# Altium schematic symbol library MCU_Microchip_ATmega.SchLib: 440 symbols (part 1 of 9)
Pins are listed as number, name and electrical type; pins without a type are passive.

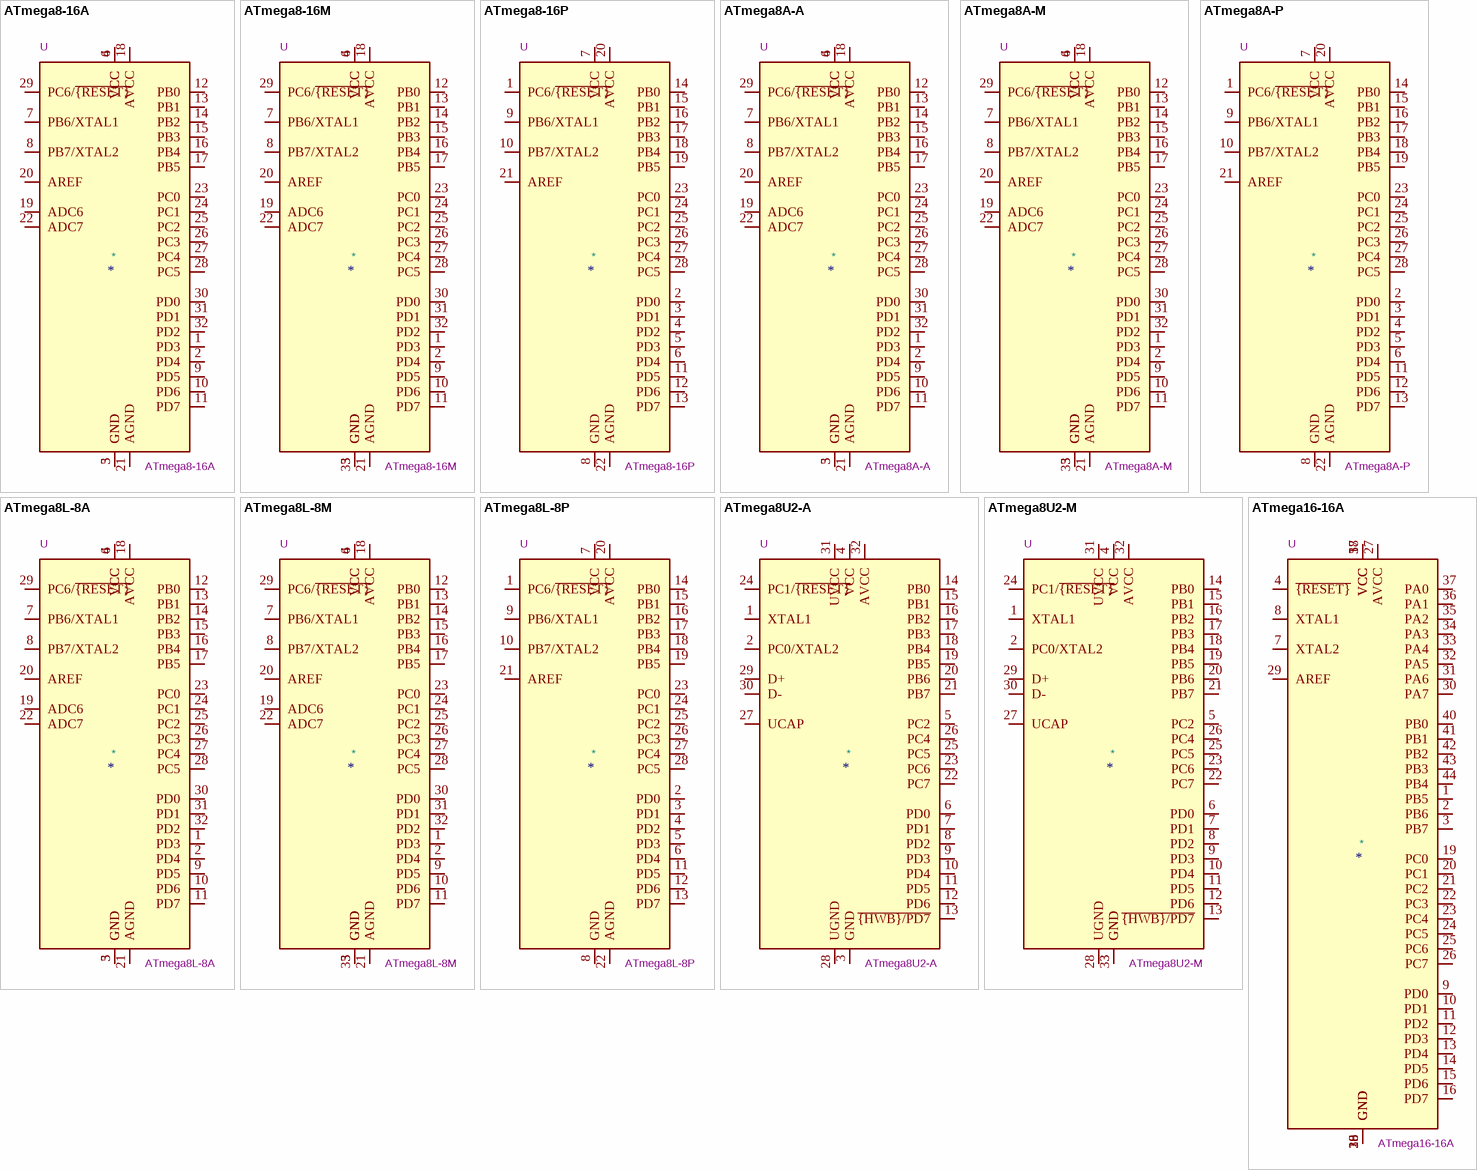
[diagram p0: symbols ATmega8-16A to ATmega16-16A]

## ATmega8-16A
designator *  value ATmega8-16A  Reference: U
16MHz, 8kB Flash, 1kB SRAM, 512B EEPROM, TQFP-32; ki_keywords: AVR 8bit Microcontroller MegaAVR; ki_fp_filters: TQFP*7x7mm*P0.8mm*; Footprint: Package_QFP:TQFP-32_7x7mm_P0.8mm; Datasheet: http://ww1.microchip.com/downloads/en/DeviceDoc/atmel-2486-8-bit-avr-microcontroller-atmega8_l_datasheet.pdf; Description_: 16MHz, 8kB Flash, 1kB SRAM, 512B EEPROM, TQFP-32
pins: 1 PD3, 2 PD4, 3 GND, 4 VCC, 5 GND, 6 VCC, 7 PB6/XTAL1, 8 PB7/XTAL2, 9 PD5, 10 PD6, 11 PD7, 12 PB0, 13 PB1, 14 PB2, 15 PB3, 16 PB4, 17 PB5, 18 AVCC, 19 ADC6, 20 AREF, 21 AGND, 22 ADC7, 23 PC0, 24 PC1, 25 PC2, 26 PC3, 27 PC4, 28 PC5, 29 PC6/~{{RESET}}, 30 PD0, 31 PD1, 32 PD2

## ATmega8-16M
designator *  value ATmega8-16M  Reference: U
16MHz, 8kB Flash, 1kB SRAM, 512B EEPROM, QFN-32; ki_keywords: AVR 8bit Microcontroller MegaAVR; ki_fp_filters: QFN*1EP*5x5mm*P0.5mm*; Footprint: Package_DFN_QFN:QFN-32-1EP_5x5mm_P0.5mm_EP3.1x3.1mm; Datasheet: http://ww1.microchip.com/downloads/en/DeviceDoc/atmel-2486-8-bit-avr-microcontroller-atmega8_l_datasheet.pdf; Description_: 16MHz, 8kB Flash, 1kB SRAM, 512B EEPROM, QFN-32
pins: 1 PD3, 2 PD4, 3 GND, 4 VCC, 5 GND, 6 VCC, 7 PB6/XTAL1, 8 PB7/XTAL2, 9 PD5, 10 PD6, 11 PD7, 12 PB0, 13 PB1, 14 PB2, 15 PB3, 16 PB4, 17 PB5, 18 AVCC, 19 ADC6, 20 AREF, 21 AGND, 22 ADC7, 23 PC0, 24 PC1, 25 PC2, 26 PC3, 27 PC4, 28 PC5, 29 PC6/~{{RESET}}, 30 PD0, 31 PD1, 32 PD2, 33 GND

## ATmega8-16P
designator *  value ATmega8-16P  Reference: U
16MHz, 8kB Flash, 1kB SRAM, 512B EEPROM, DIP-28; ki_keywords: AVR 8bit Microcontroller MegaAVR; ki_fp_filters: DIP*W7.62mm*; Footprint: Package_DIP:DIP-28_W7.62mm; Datasheet: http://ww1.microchip.com/downloads/en/DeviceDoc/atmel-2486-8-bit-avr-microcontroller-atmega8_l_datasheet.pdf; Description_: 16MHz, 8kB Flash, 1kB SRAM, 512B EEPROM, DIP-28
pins: 1 PC6/~{{RESET}}, 2 PD0, 3 PD1, 4 PD2, 5 PD3, 6 PD4, 7 VCC, 8 GND, 9 PB6/XTAL1, 10 PB7/XTAL2, 11 PD5, 12 PD6, 13 PD7, 14 PB0, 15 PB1, 16 PB2, 17 PB3, 18 PB4, 19 PB5, 20 AVCC, 21 AREF, 22 AGND, 23 PC0, 24 PC1, 25 PC2, 26 PC3, 27 PC4, 28 PC5

## ATmega8A-A
designator *  value ATmega8A-A  Reference: U
16MHz, 8kB Flash, 1kB SRAM, 512B EEPROM, TQFP-32; ki_keywords: AVR 8bit Microcontroller MegaAVR; ki_fp_filters: TQFP*7x7mm*P0.8mm*; Footprint: Package_QFP:TQFP-32_7x7mm_P0.8mm; Datasheet: http://ww1.microchip.com/downloads/en/DeviceDoc/Microchip%208bit%20mcu%20AVR%20ATmega8A%20data%20sheet%2040001974A.pdf; Description_: 16MHz, 8kB Flash, 1kB SRAM, 512B EEPROM, TQFP-32
pins: 1 PD3, 2 PD4, 3 GND, 4 VCC, 5 GND, 6 VCC, 7 PB6/XTAL1, 8 PB7/XTAL2, 9 PD5, 10 PD6, 11 PD7, 12 PB0, 13 PB1, 14 PB2, 15 PB3, 16 PB4, 17 PB5, 18 AVCC, 19 ADC6, 20 AREF, 21 AGND, 22 ADC7, 23 PC0, 24 PC1, 25 PC2, 26 PC3, 27 PC4, 28 PC5, 29 PC6/~{{RESET}}, 30 PD0, 31 PD1, 32 PD2

## ATmega8A-M
designator *  value ATmega8A-M  Reference: U
16MHz, 8kB Flash, 1kB SRAM, 512B EEPROM, QFN-32; ki_keywords: AVR 8bit Microcontroller MegaAVR; ki_fp_filters: QFN*1EP*5x5mm*P0.5mm*; Footprint: Package_DFN_QFN:QFN-32-1EP_5x5mm_P0.5mm_EP3.1x3.1mm; Datasheet: http://ww1.microchip.com/downloads/en/DeviceDoc/Microchip%208bit%20mcu%20AVR%20ATmega8A%20data%20sheet%2040001974A.pdf; Description_: 16MHz, 8kB Flash, 1kB SRAM, 512B EEPROM, QFN-32
pins: 1 PD3, 2 PD4, 3 GND, 4 VCC, 5 GND, 6 VCC, 7 PB6/XTAL1, 8 PB7/XTAL2, 9 PD5, 10 PD6, 11 PD7, 12 PB0, 13 PB1, 14 PB2, 15 PB3, 16 PB4, 17 PB5, 18 AVCC, 19 ADC6, 20 AREF, 21 AGND, 22 ADC7, 23 PC0, 24 PC1, 25 PC2, 26 PC3, 27 PC4, 28 PC5, 29 PC6/~{{RESET}}, 30 PD0, 31 PD1, 32 PD2, 33 GND

## ATmega8A-P
designator *  value ATmega8A-P  Reference: U
16MHz, 8kB Flash, 1kB SRAM, 512B EEPROM, DIP-28; ki_keywords: AVR 8bit Microcontroller MegaAVR; ki_fp_filters: DIP*W7.62mm*; Footprint: Package_DIP:DIP-28_W7.62mm; Datasheet: http://ww1.microchip.com/downloads/en/DeviceDoc/Microchip%208bit%20mcu%20AVR%20ATmega8A%20data%20sheet%2040001974A.pdf; Description_: 16MHz, 8kB Flash, 1kB SRAM, 512B EEPROM, DIP-28
pins: 1 PC6/~{{RESET}}, 2 PD0, 3 PD1, 4 PD2, 5 PD3, 6 PD4, 7 VCC, 8 GND, 9 PB6/XTAL1, 10 PB7/XTAL2, 11 PD5, 12 PD6, 13 PD7, 14 PB0, 15 PB1, 16 PB2, 17 PB3, 18 PB4, 19 PB5, 20 AVCC, 21 AREF, 22 AGND, 23 PC0, 24 PC1, 25 PC2, 26 PC3, 27 PC4, 28 PC5

## ATmega8L-8A
designator *  value ATmega8L-8A  Reference: U
8MHz, 8kB Flash, 1kB SRAM, 512B EEPROM, TQFP-32; ki_keywords: AVR 8bit Microcontroller MegaAVR; ki_fp_filters: TQFP*7x7mm*P0.8mm*; Footprint: Package_QFP:TQFP-32_7x7mm_P0.8mm; Datasheet: http://ww1.microchip.com/downloads/en/DeviceDoc/atmel-2486-8-bit-avr-microcontroller-atmega8_l_datasheet.pdf; Description_: 8MHz, 8kB Flash, 1kB SRAM, 512B EEPROM, TQFP-32
pins: 1 PD3, 2 PD4, 3 GND, 4 VCC, 5 GND, 6 VCC, 7 PB6/XTAL1, 8 PB7/XTAL2, 9 PD5, 10 PD6, 11 PD7, 12 PB0, 13 PB1, 14 PB2, 15 PB3, 16 PB4, 17 PB5, 18 AVCC, 19 ADC6, 20 AREF, 21 AGND, 22 ADC7, 23 PC0, 24 PC1, 25 PC2, 26 PC3, 27 PC4, 28 PC5, 29 PC6/~{{RESET}}, 30 PD0, 31 PD1, 32 PD2

## ATmega8L-8M
designator *  value ATmega8L-8M  Reference: U
8MHz, 8kB Flash, 1kB SRAM, 512B EEPROM, QFN-32; ki_keywords: AVR 8bit Microcontroller MegaAVR; ki_fp_filters: QFN*1EP*5x5mm*P0.5mm*; Footprint: Package_DFN_QFN:QFN-32-1EP_5x5mm_P0.5mm_EP3.1x3.1mm; Datasheet: http://ww1.microchip.com/downloads/en/DeviceDoc/atmel-2486-8-bit-avr-microcontroller-atmega8_l_datasheet.pdf; Description_: 8MHz, 8kB Flash, 1kB SRAM, 512B EEPROM, QFN-32
pins: 1 PD3, 2 PD4, 3 GND, 4 VCC, 5 GND, 6 VCC, 7 PB6/XTAL1, 8 PB7/XTAL2, 9 PD5, 10 PD6, 11 PD7, 12 PB0, 13 PB1, 14 PB2, 15 PB3, 16 PB4, 17 PB5, 18 AVCC, 19 ADC6, 20 AREF, 21 AGND, 22 ADC7, 23 PC0, 24 PC1, 25 PC2, 26 PC3, 27 PC4, 28 PC5, 29 PC6/~{{RESET}}, 30 PD0, 31 PD1, 32 PD2, 33 GND

## ATmega8L-8P
designator *  value ATmega8L-8P  Reference: U
8MHz, 8kB Flash, 1kB SRAM, 512B EEPROM, DIP-28; ki_keywords: AVR 8bit Microcontroller MegaAVR; ki_fp_filters: DIP*W7.62mm*; Footprint: Package_DIP:DIP-28_W7.62mm; Datasheet: http://ww1.microchip.com/downloads/en/DeviceDoc/atmel-2486-8-bit-avr-microcontroller-atmega8_l_datasheet.pdf; Description_: 8MHz, 8kB Flash, 1kB SRAM, 512B EEPROM, DIP-28
pins: 1 PC6/~{{RESET}}, 2 PD0, 3 PD1, 4 PD2, 5 PD3, 6 PD4, 7 VCC, 8 GND, 9 PB6/XTAL1, 10 PB7/XTAL2, 11 PD5, 12 PD6, 13 PD7, 14 PB0, 15 PB1, 16 PB2, 17 PB3, 18 PB4, 19 PB5, 20 AVCC, 21 AREF, 22 AGND, 23 PC0, 24 PC1, 25 PC2, 26 PC3, 27 PC4, 28 PC5

## ATmega8U2-A
designator *  value ATmega8U2-A  Reference: U
16MHz, 8kB Flash, 512B SRAM, 512B EEPROM, TQFP-32; ki_keywords: AVR 8bit Microcontroller MegaAVR; ki_fp_filters: TQFP*7x7mm*P0.8mm*; Footprint: Package_QFP:TQFP-32_7x7mm_P0.8mm; Datasheet: http://ww1.microchip.com/downloads/en/DeviceDoc/doc7799.pdf; Description_: 16MHz, 8kB Flash, 512B SRAM, 512B EEPROM, TQFP-32
pins: 1 XTAL1, 2 PC0/XTAL2, 3 GND, 4 VCC, 5 PC2, 6 PD0, 7 PD1, 8 PD2, 9 PD3, 10 PD4, 11 PD5, 12 PD6, 13 ~{{HWB}/PD7}, 14 PB0, 15 PB1, 16 PB2, 17 PB3, 18 PB4, 19 PB5, 20 PB6, 21 PB7, 22 PC7, 23 PC6, 24 PC1/~{{RESET}}, 25 PC5, 26 PC4, 27 UCAP, 28 UGND, 29 D+, 30 D-, 31 UVCC, 32 AVCC

## ATmega8U2-M
designator *  value ATmega8U2-M  Reference: U
16MHz, 8kB Flash, 512B SRAM, 512B EEPROM, QFN-32; ki_keywords: AVR 8bit Microcontroller MegaAVR; ki_fp_filters: QFN*1EP*5x5mm*P0.5mm*; Footprint: Package_DFN_QFN:QFN-32-1EP_5x5mm_P0.5mm_EP3.1x3.1mm; Datasheet: http://ww1.microchip.com/downloads/en/DeviceDoc/doc7799.pdf; Description_: 16MHz, 8kB Flash, 512B SRAM, 512B EEPROM, QFN-32
pins: 1 XTAL1, 2 PC0/XTAL2, 3 GND, 4 VCC, 5 PC2, 6 PD0, 7 PD1, 8 PD2, 9 PD3, 10 PD4, 11 PD5, 12 PD6, 13 ~{{HWB}/PD7}, 14 PB0, 15 PB1, 16 PB2, 17 PB3, 18 PB4, 19 PB5, 20 PB6, 21 PB7, 22 PC7, 23 PC6, 24 PC1/~{{RESET}}, 25 PC5, 26 PC4, 27 UCAP, 28 UGND, 29 D+, 30 D-, 31 UVCC, 32 AVCC, 33 GND

## ATmega16-16A
designator *  value ATmega16-16A  Reference: U
16MHz, 16kB Flash, 1kB SRAM, 512B EEPROM, JTAG, TQFP-44; ki_keywords: AVR 8bit Microcontroller MegaAVR; ki_fp_filters: TQFP*10x10mm*P0.8mm*; Footprint: Package_QFP:TQFP-44_10x10mm_P0.8mm; Datasheet: http://ww1.microchip.com/downloads/en/DeviceDoc/doc2466.pdf; Description_: 16MHz, 16kB Flash, 1kB SRAM, 512B EEPROM, JTAG, TQFP-44
pins: 1 PB5, 2 PB6, 3 PB7, 4 ~{{RESET}}, 5 VCC, 6 GND, 7 XTAL2, 8 XTAL1, 9 PD0, 10 PD1, 11 PD2, 12 PD3, 13 PD4, 14 PD5, 15 PD6, 16 PD7, 17 VCC, 18 GND, 19 PC0, 20 PC1, 21 PC2, 22 PC3, 23 PC4, 24 PC5, 25 PC6, 26 PC7, 27 AVCC, 28 GND, 29 AREF, 30 PA7, 31 PA6, 32 PA5, 33 PA4, 34 PA3, 35 PA2, 36 PA1, 37 PA0, 38 VCC, 39 GND, 40 PB0, 41 PB1, 42 PB2, 43 PB3, 44 PB4

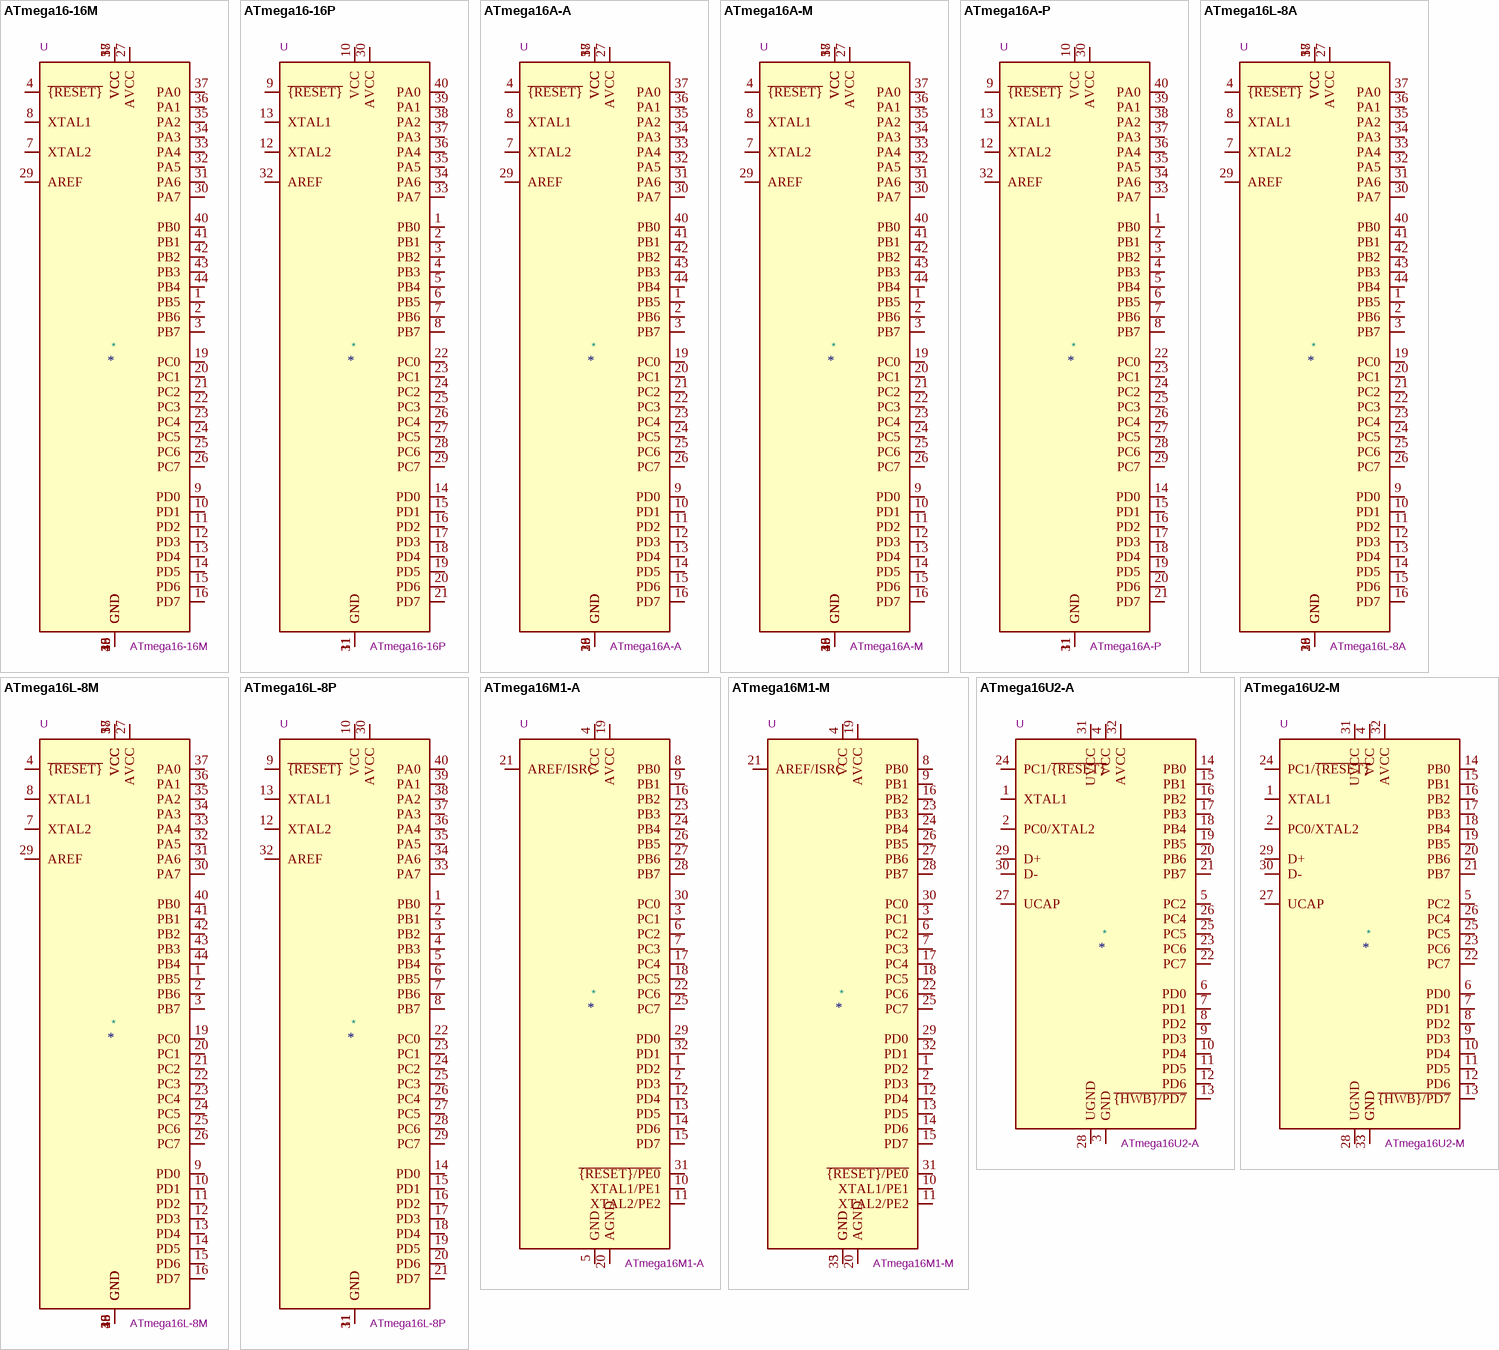
[diagram p1: symbols ATmega16-16M to ATmega16U2-M]

## ATmega16-16M
designator *  value ATmega16-16M  Reference: U
16MHz, 16kB Flash, 1kB SRAM, 512B EEPROM, JTAG, QFN-44; ki_keywords: AVR 8bit Microcontroller MegaAVR; ki_fp_filters: QFN*1EP*7x7mm*P0.5mm*; Footprint: Package_DFN_QFN:QFN-44-1EP_7x7mm_P0.5mm_EP5.2x5.2mm; Datasheet: http://ww1.microchip.com/downloads/en/DeviceDoc/doc2466.pdf; Description_: 16MHz, 16kB Flash, 1kB SRAM, 512B EEPROM, JTAG, QFN-44
pins: 1 PB5, 2 PB6, 3 PB7, 4 ~{{RESET}}, 5 VCC, 6 GND, 7 XTAL2, 8 XTAL1, 9 PD0, 10 PD1, 11 PD2, 12 PD3, 13 PD4, 14 PD5, 15 PD6, 16 PD7, 17 VCC, 18 GND, 19 PC0, 20 PC1, 21 PC2, 22 PC3, 23 PC4, 24 PC5, 25 PC6, 26 PC7, 27 AVCC, 28 GND, 29 AREF, 30 PA7, 31 PA6, 32 PA5, 33 PA4, 34 PA3, 35 PA2, 36 PA1, 37 PA0, 38 VCC, 39 GND, 40 PB0, 41 PB1, 42 PB2, 43 PB3, 44 PB4, 45 GND

## ATmega16-16P
designator *  value ATmega16-16P  Reference: U
16MHz, 16kB Flash, 1kB SRAM, 512B EEPROM, JTAG, DIP-40; ki_keywords: AVR 8bit Microcontroller MegaAVR; ki_fp_filters: DIP*W15.24mm*; Footprint: Package_DIP:DIP-40_W15.24mm; Datasheet: http://ww1.microchip.com/downloads/en/DeviceDoc/doc2466.pdf; Description_: 16MHz, 16kB Flash, 1kB SRAM, 512B EEPROM, JTAG, DIP-40
pins: 1 PB0, 2 PB1, 3 PB2, 4 PB3, 5 PB4, 6 PB5, 7 PB6, 8 PB7, 9 ~{{RESET}}, 10 VCC, 11 GND, 12 XTAL2, 13 XTAL1, 14 PD0, 15 PD1, 16 PD2, 17 PD3, 18 PD4, 19 PD5, 20 PD6, 21 PD7, 22 PC0, 23 PC1, 24 PC2, 25 PC3, 26 PC4, 27 PC5, 28 PC6, 29 PC7, 30 AVCC, 31 GND, 32 AREF, 33 PA7, 34 PA6, 35 PA5, 36 PA4, 37 PA3, 38 PA2, 39 PA1, 40 PA0

## ATmega16A-A
designator *  value ATmega16A-A  Reference: U
16MHz, 16kB Flash, 1kB SRAM, 512B EEPROM, JTAG, TQFP-44; ki_keywords: AVR 8bit Microcontroller MegaAVR; ki_fp_filters: TQFP*10x10mm*P0.8mm*; Footprint: Package_QFP:TQFP-44_10x10mm_P0.8mm; Datasheet: http://ww1.microchip.com/downloads/en/DeviceDoc/Atmel-8154-8-bit-AVR-ATmega16A_Datasheet.pdf; Description_: 16MHz, 16kB Flash, 1kB SRAM, 512B EEPROM, JTAG, TQFP-44
pins: 1 PB5, 2 PB6, 3 PB7, 4 ~{{RESET}}, 5 VCC, 6 GND, 7 XTAL2, 8 XTAL1, 9 PD0, 10 PD1, 11 PD2, 12 PD3, 13 PD4, 14 PD5, 15 PD6, 16 PD7, 17 VCC, 18 GND, 19 PC0, 20 PC1, 21 PC2, 22 PC3, 23 PC4, 24 PC5, 25 PC6, 26 PC7, 27 AVCC, 28 GND, 29 AREF, 30 PA7, 31 PA6, 32 PA5, 33 PA4, 34 PA3, 35 PA2, 36 PA1, 37 PA0, 38 VCC, 39 GND, 40 PB0, 41 PB1, 42 PB2, 43 PB3, 44 PB4

## ATmega16A-M
designator *  value ATmega16A-M  Reference: U
16MHz, 16kB Flash, 1kB SRAM, 512B EEPROM, JTAG, QFN-44; ki_keywords: AVR 8bit Microcontroller MegaAVR; ki_fp_filters: QFN*1EP*7x7mm*P0.5mm*; Footprint: Package_DFN_QFN:QFN-44-1EP_7x7mm_P0.5mm_EP5.2x5.2mm; Datasheet: http://ww1.microchip.com/downloads/en/DeviceDoc/Atmel-8154-8-bit-AVR-ATmega16A_Datasheet.pdf; Description_: 16MHz, 16kB Flash, 1kB SRAM, 512B EEPROM, JTAG, QFN-44
pins: 1 PB5, 2 PB6, 3 PB7, 4 ~{{RESET}}, 5 VCC, 6 GND, 7 XTAL2, 8 XTAL1, 9 PD0, 10 PD1, 11 PD2, 12 PD3, 13 PD4, 14 PD5, 15 PD6, 16 PD7, 17 VCC, 18 GND, 19 PC0, 20 PC1, 21 PC2, 22 PC3, 23 PC4, 24 PC5, 25 PC6, 26 PC7, 27 AVCC, 28 GND, 29 AREF, 30 PA7, 31 PA6, 32 PA5, 33 PA4, 34 PA3, 35 PA2, 36 PA1, 37 PA0, 38 VCC, 39 GND, 40 PB0, 41 PB1, 42 PB2, 43 PB3, 44 PB4, 45 GND

## ATmega16A-P
designator *  value ATmega16A-P  Reference: U
16MHz, 16kB Flash, 1kB SRAM, 512B EEPROM, JTAG, DIP-40; ki_keywords: AVR 8bit Microcontroller MegaAVR; ki_fp_filters: DIP*W15.24mm*; Footprint: Package_DIP:DIP-40_W15.24mm; Datasheet: http://ww1.microchip.com/downloads/en/DeviceDoc/Atmel-8154-8-bit-AVR-ATmega16A_Datasheet.pdf; Description_: 16MHz, 16kB Flash, 1kB SRAM, 512B EEPROM, JTAG, DIP-40
pins: 1 PB0, 2 PB1, 3 PB2, 4 PB3, 5 PB4, 6 PB5, 7 PB6, 8 PB7, 9 ~{{RESET}}, 10 VCC, 11 GND, 12 XTAL2, 13 XTAL1, 14 PD0, 15 PD1, 16 PD2, 17 PD3, 18 PD4, 19 PD5, 20 PD6, 21 PD7, 22 PC0, 23 PC1, 24 PC2, 25 PC3, 26 PC4, 27 PC5, 28 PC6, 29 PC7, 30 AVCC, 31 GND, 32 AREF, 33 PA7, 34 PA6, 35 PA5, 36 PA4, 37 PA3, 38 PA2, 39 PA1, 40 PA0

## ATmega16L-8A
designator *  value ATmega16L-8A  Reference: U
8MHz, 16kB Flash, 1kB SRAM, 512B EEPROM, JTAG, TQFP-44; ki_keywords: AVR 8bit Microcontroller MegaAVR; ki_fp_filters: TQFP*10x10mm*P0.8mm*; Footprint: Package_QFP:TQFP-44_10x10mm_P0.8mm; Datasheet: http://ww1.microchip.com/downloads/en/DeviceDoc/doc2466.pdf; Description_: 8MHz, 16kB Flash, 1kB SRAM, 512B EEPROM, JTAG, TQFP-44
pins: 1 PB5, 2 PB6, 3 PB7, 4 ~{{RESET}}, 5 VCC, 6 GND, 7 XTAL2, 8 XTAL1, 9 PD0, 10 PD1, 11 PD2, 12 PD3, 13 PD4, 14 PD5, 15 PD6, 16 PD7, 17 VCC, 18 GND, 19 PC0, 20 PC1, 21 PC2, 22 PC3, 23 PC4, 24 PC5, 25 PC6, 26 PC7, 27 AVCC, 28 GND, 29 AREF, 30 PA7, 31 PA6, 32 PA5, 33 PA4, 34 PA3, 35 PA2, 36 PA1, 37 PA0, 38 VCC, 39 GND, 40 PB0, 41 PB1, 42 PB2, 43 PB3, 44 PB4

## ATmega16L-8M
designator *  value ATmega16L-8M  Reference: U
8MHz, 16kB Flash, 1kB SRAM, 512B EEPROM, JTAG, QFN-44; ki_keywords: AVR 8bit Microcontroller MegaAVR; ki_fp_filters: QFN*1EP*7x7mm*P0.5mm*; Footprint: Package_DFN_QFN:QFN-44-1EP_7x7mm_P0.5mm_EP5.2x5.2mm; Datasheet: http://ww1.microchip.com/downloads/en/DeviceDoc/doc2466.pdf; Description_: 8MHz, 16kB Flash, 1kB SRAM, 512B EEPROM, JTAG, QFN-44
pins: 1 PB5, 2 PB6, 3 PB7, 4 ~{{RESET}}, 5 VCC, 6 GND, 7 XTAL2, 8 XTAL1, 9 PD0, 10 PD1, 11 PD2, 12 PD3, 13 PD4, 14 PD5, 15 PD6, 16 PD7, 17 VCC, 18 GND, 19 PC0, 20 PC1, 21 PC2, 22 PC3, 23 PC4, 24 PC5, 25 PC6, 26 PC7, 27 AVCC, 28 GND, 29 AREF, 30 PA7, 31 PA6, 32 PA5, 33 PA4, 34 PA3, 35 PA2, 36 PA1, 37 PA0, 38 VCC, 39 GND, 40 PB0, 41 PB1, 42 PB2, 43 PB3, 44 PB4, 45 GND

## ATmega16L-8P
designator *  value ATmega16L-8P  Reference: U
8MHz, 16kB Flash, 1kB SRAM, 512B EEPROM, JTAG, DIP-40; ki_keywords: AVR 8bit Microcontroller MegaAVR; ki_fp_filters: DIP*W15.24mm*; Footprint: Package_DIP:DIP-40_W15.24mm; Datasheet: http://ww1.microchip.com/downloads/en/DeviceDoc/doc2466.pdf; Description_: 8MHz, 16kB Flash, 1kB SRAM, 512B EEPROM, JTAG, DIP-40
pins: 1 PB0, 2 PB1, 3 PB2, 4 PB3, 5 PB4, 6 PB5, 7 PB6, 8 PB7, 9 ~{{RESET}}, 10 VCC, 11 GND, 12 XTAL2, 13 XTAL1, 14 PD0, 15 PD1, 16 PD2, 17 PD3, 18 PD4, 19 PD5, 20 PD6, 21 PD7, 22 PC0, 23 PC1, 24 PC2, 25 PC3, 26 PC4, 27 PC5, 28 PC6, 29 PC7, 30 AVCC, 31 GND, 32 AREF, 33 PA7, 34 PA6, 35 PA5, 36 PA4, 37 PA3, 38 PA2, 39 PA1, 40 PA0

## ATmega16M1-A
designator *  value ATmega16M1-A  Reference: U
16MHz, 16kB Flash, 1kB SRAM, 512B EEPROM, CAN, TQFP-32; ki_keywords: AVR 8bit Microcontroller MegaAVR; ki_fp_filters: TQFP*7x7mm*P0.8mm*; Footprint: Package_QFP:TQFP-32_7x7mm_P0.8mm; Datasheet: http://ww1.microchip.com/downloads/en/DeviceDoc/Atmel-8209-8-bit%20AVR%20ATmega16M1-32M1-64M1_Datasheet.pdf; Description_: 16MHz, 16kB Flash, 1kB SRAM, 512B EEPROM, CAN, TQFP-32
pins: 1 PD2, 2 PD3, 3 PC1, 4 VCC, 5 GND, 6 PC2, 7 PC3, 8 PB0, 9 PB1, 10 XTAL1/PE1, 11 XTAL2/PE2, 12 PD4, 13 PD5, 14 PD6, 15 PD7, 16 PB2, 17 PC4, 18 PC5, 19 AVCC, 20 AGND, 21 AREF/ISRC, 22 PC6, 23 PB3, 24 PB4, 25 PC7, 26 PB5, 27 PB6, 28 PB7, 29 PD0, 30 PC0, 31 ~{{RESET}/PE0}, 32 PD1

## ATmega16M1-M
designator *  value ATmega16M1-M  Reference: U
16MHz, 16kB Flash, 1kB SRAM, 512B EEPROM, CAN, QFN-32; ki_keywords: AVR 8bit Microcontroller MegaAVR; ki_fp_filters: QFN*1EP*7x7mm*P0.65mm*; Footprint: Package_DFN_QFN:QFN-32-1EP_7x7mm_P0.65mm_EP4.65x4.65mm; Datasheet: http://ww1.microchip.com/downloads/en/DeviceDoc/Atmel-8209-8-bit%20AVR%20ATmega16M1-32M1-64M1_Datasheet.pdf; Description_: 16MHz, 16kB Flash, 1kB SRAM, 512B EEPROM, CAN, QFN-32
pins: 1 PD2, 2 PD3, 3 PC1, 4 VCC, 5 GND, 6 PC2, 7 PC3, 8 PB0, 9 PB1, 10 XTAL1/PE1, 11 XTAL2/PE2, 12 PD4, 13 PD5, 14 PD6, 15 PD7, 16 PB2, 17 PC4, 18 PC5, 19 AVCC, 20 AGND, 21 AREF/ISRC, 22 PC6, 23 PB3, 24 PB4, 25 PC7, 26 PB5, 27 PB6, 28 PB7, 29 PD0, 30 PC0, 31 ~{{RESET}/PE0}, 32 PD1, 33 GND

## ATmega16U2-A
designator *  value ATmega16U2-A  Reference: U
16MHz, 16kB Flash, 512B SRAM, 512B EEPROM, TQFP-32; ki_keywords: AVR 8bit Microcontroller MegaAVR; ki_fp_filters: TQFP*7x7mm*P0.8mm*; Footprint: Package_QFP:TQFP-32_7x7mm_P0.8mm; Datasheet: http://ww1.microchip.com/downloads/en/DeviceDoc/doc7799.pdf; Description_: 16MHz, 16kB Flash, 512B SRAM, 512B EEPROM, TQFP-32
pins: 1 XTAL1, 2 PC0/XTAL2, 3 GND, 4 VCC, 5 PC2, 6 PD0, 7 PD1, 8 PD2, 9 PD3, 10 PD4, 11 PD5, 12 PD6, 13 ~{{HWB}/PD7}, 14 PB0, 15 PB1, 16 PB2, 17 PB3, 18 PB4, 19 PB5, 20 PB6, 21 PB7, 22 PC7, 23 PC6, 24 PC1/~{{RESET}}, 25 PC5, 26 PC4, 27 UCAP, 28 UGND, 29 D+, 30 D-, 31 UVCC, 32 AVCC

## ATmega16U2-M
designator *  value ATmega16U2-M  Reference: U
16MHz, 16kB Flash, 512B SRAM, 512B EEPROM, QFN-32; ki_keywords: AVR 8bit Microcontroller MegaAVR; ki_fp_filters: QFN*1EP*5x5mm*P0.5mm*; Footprint: Package_DFN_QFN:QFN-32-1EP_5x5mm_P0.5mm_EP3.1x3.1mm; Datasheet: http://ww1.microchip.com/downloads/en/DeviceDoc/doc7799.pdf; Description_: 16MHz, 16kB Flash, 512B SRAM, 512B EEPROM, QFN-32
pins: 1 XTAL1, 2 PC0/XTAL2, 3 GND, 4 VCC, 5 PC2, 6 PD0, 7 PD1, 8 PD2, 9 PD3, 10 PD4, 11 PD5, 12 PD6, 13 ~{{HWB}/PD7}, 14 PB0, 15 PB1, 16 PB2, 17 PB3, 18 PB4, 19 PB5, 20 PB6, 21 PB7, 22 PC7, 23 PC6, 24 PC1/~{{RESET}}, 25 PC5, 26 PC4, 27 UCAP, 28 UGND, 29 D+, 30 D-, 31 UVCC, 32 AVCC, 33 GND

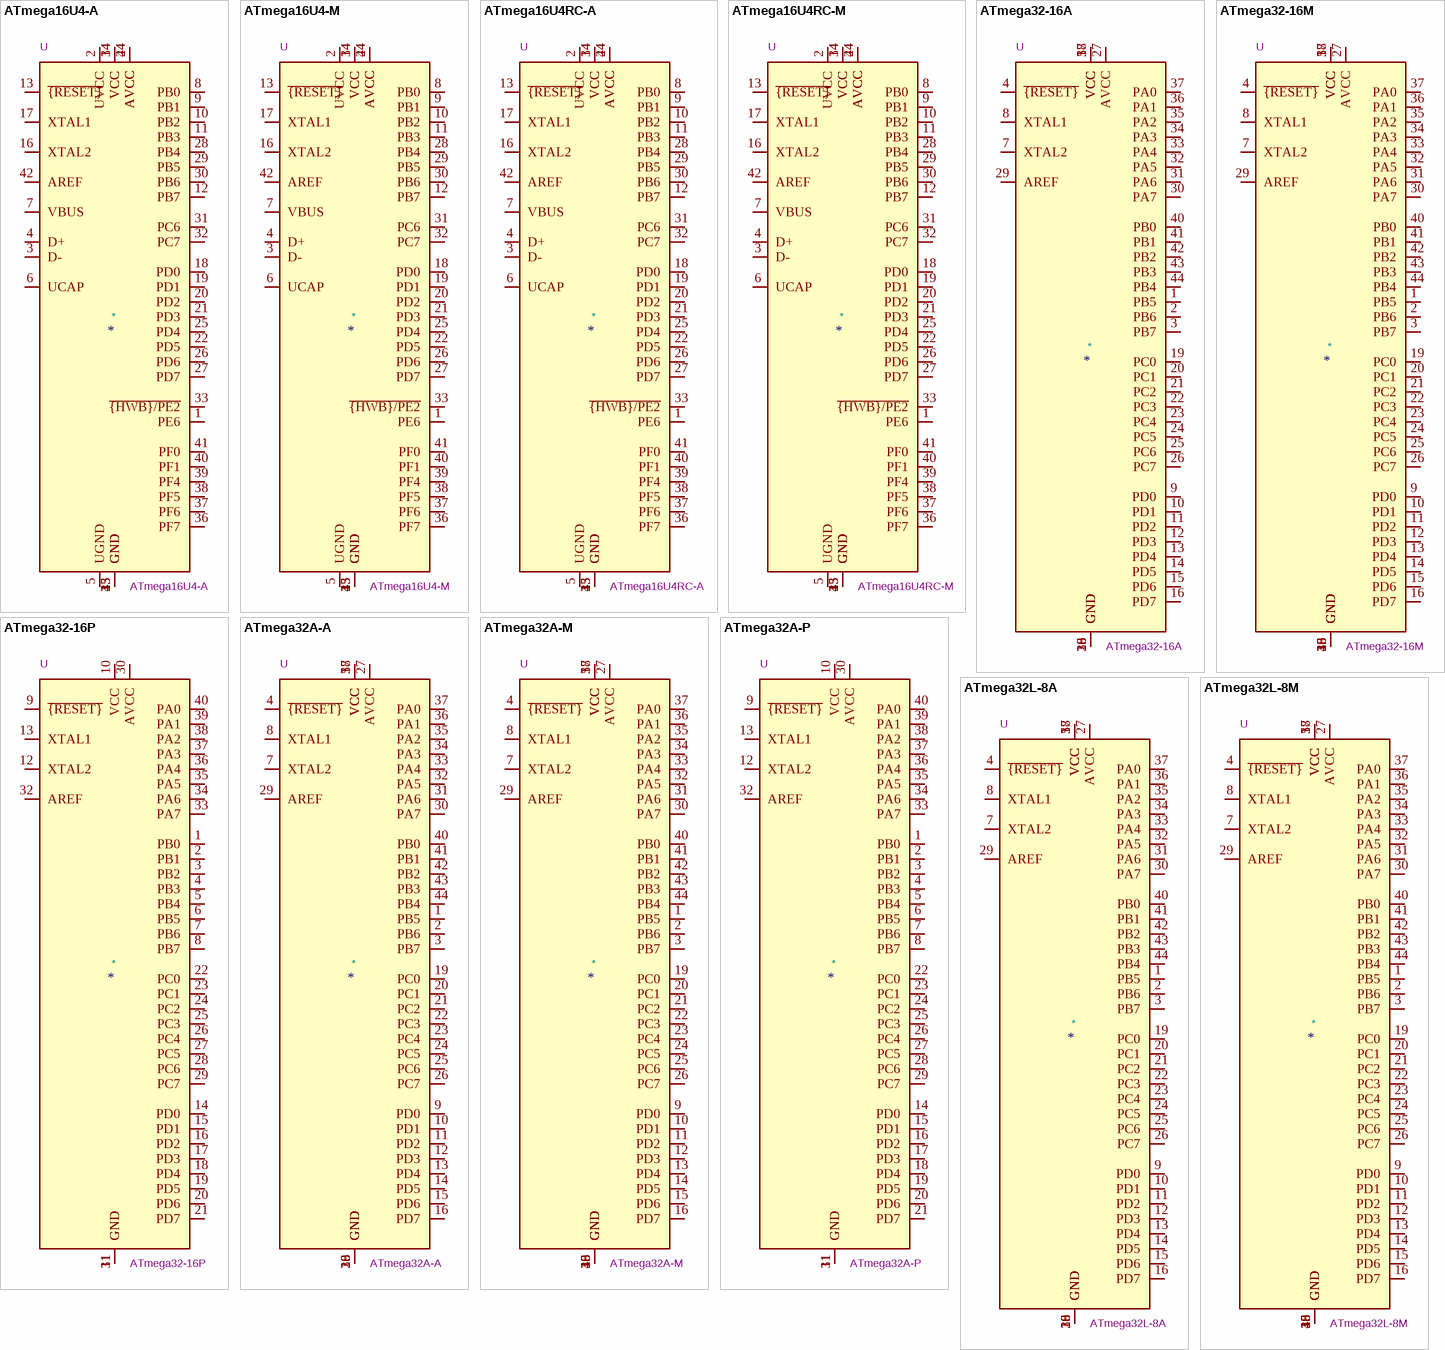
[diagram p2: symbols ATmega16U4-A to ATmega32L-8M]

## ATmega16U4-A
designator *  value ATmega16U4-A  Reference: U
16MHz, 16kB Flash, 1.25kB SRAM, 512B EEPROM, USB 2.0, TQFP-44; ki_keywords: AVR 8bit Microcontroller MegaAVR USB; ki_fp_filters: TQFP*10x10mm*P0.8mm*; Footprint: Package_QFP:TQFP-44_10x10mm_P0.8mm; Datasheet: http://ww1.microchip.com/downloads/en/DeviceDoc/Atmel-7766-8-bit-AVR-ATmega16U4-32U4_Datasheet.pdf; Description_: 16MHz, 16kB Flash, 1.25kB SRAM, 512B EEPROM, USB 2.0, TQFP-44
pins: 1 PE6, 2 UVCC, 3 D-, 4 D+, 5 UGND, 6 UCAP, 7 VBUS, 8 PB0, 9 PB1, 10 PB2, 11 PB3, 12 PB7, 13 ~{{RESET}}, 14 VCC, 15 GND, 16 XTAL2, 17 XTAL1, 18 PD0, 19 PD1, 20 PD2, 21 PD3, 22 PD5, 23 GND, 24 AVCC, 25 PD4, 26 PD6, 27 PD7, 28 PB4, 29 PB5, 30 PB6, 31 PC6, 32 PC7, 33 ~{{HWB}/PE2}, 34 VCC, 35 GND, 36 PF7, 37 PF6, 38 PF5, 39 PF4, 40 PF1, 41 PF0, 42 AREF, 43 GND, 44 AVCC

## ATmega16U4-M
designator *  value ATmega16U4-M  Reference: U
16MHz, 16kB Flash, 1.25kB SRAM, 512B EEPROM, USB 2.0, QFN-44; ki_keywords: AVR 8bit Microcontroller MegaAVR USB; ki_fp_filters: QFN*1EP*7x7mm*P0.5mm*; Footprint: Package_DFN_QFN:QFN-44-1EP_7x7mm_P0.5mm_EP5.2x5.2mm; Datasheet: http://ww1.microchip.com/downloads/en/DeviceDoc/Atmel-7766-8-bit-AVR-ATmega16U4-32U4_Datasheet.pdf; Description_: 16MHz, 16kB Flash, 1.25kB SRAM, 512B EEPROM, USB 2.0, QFN-44
pins: 1 PE6, 2 UVCC, 3 D-, 4 D+, 5 UGND, 6 UCAP, 7 VBUS, 8 PB0, 9 PB1, 10 PB2, 11 PB3, 12 PB7, 13 ~{{RESET}}, 14 VCC, 15 GND, 16 XTAL2, 17 XTAL1, 18 PD0, 19 PD1, 20 PD2, 21 PD3, 22 PD5, 23 GND, 24 AVCC, 25 PD4, 26 PD6, 27 PD7, 28 PB4, 29 PB5, 30 PB6, 31 PC6, 32 PC7, 33 ~{{HWB}/PE2}, 34 VCC, 35 GND, 36 PF7, 37 PF6, 38 PF5, 39 PF4, 40 PF1, 41 PF0, 42 AREF, 43 GND, 44 AVCC, 45 GND

## ATmega16U4RC-A
designator *  value ATmega16U4RC-A  Reference: U
16MHz, 16kB Flash, 1.25kB SRAM, 512B EEPROM, USB 2.0, RC Osc, TQFP-44; ki_keywords: AVR 8bit Microcontroller MegaAVR USB; ki_fp_filters: TQFP*10x10mm*P0.8mm*; Footprint: Package_QFP:TQFP-44_10x10mm_P0.8mm; Datasheet: http://ww1.microchip.com/downloads/en/DeviceDoc/Atmel-7766-8-bit-AVR-ATmega16U4-32U4_Datasheet.pdf; Description_: 16MHz, 16kB Flash, 1.25kB SRAM, 512B EEPROM, USB 2.0, RC Osc, TQFP-44
pins: 1 PE6, 2 UVCC, 3 D-, 4 D+, 5 UGND, 6 UCAP, 7 VBUS, 8 PB0, 9 PB1, 10 PB2, 11 PB3, 12 PB7, 13 ~{{RESET}}, 14 VCC, 15 GND, 16 XTAL2, 17 XTAL1, 18 PD0, 19 PD1, 20 PD2, 21 PD3, 22 PD5, 23 GND, 24 AVCC, 25 PD4, 26 PD6, 27 PD7, 28 PB4, 29 PB5, 30 PB6, 31 PC6, 32 PC7, 33 ~{{HWB}/PE2}, 34 VCC, 35 GND, 36 PF7, 37 PF6, 38 PF5, 39 PF4, 40 PF1, 41 PF0, 42 AREF, 43 GND, 44 AVCC

## ATmega16U4RC-M
designator *  value ATmega16U4RC-M  Reference: U
16MHz, 16kB Flash, 1.25kB SRAM, 512B EEPROM, USB 2.0, RC Osc, QFN-44; ki_keywords: AVR 8bit Microcontroller MegaAVR USB; ki_fp_filters: QFN*1EP*7x7mm*P0.5mm*; Footprint: Package_DFN_QFN:QFN-44-1EP_7x7mm_P0.5mm_EP5.2x5.2mm; Datasheet: http://ww1.microchip.com/downloads/en/DeviceDoc/Atmel-7766-8-bit-AVR-ATmega16U4-32U4_Datasheet.pdf; Description_: 16MHz, 16kB Flash, 1.25kB SRAM, 512B EEPROM, USB 2.0, RC Osc, QFN-44
pins: 1 PE6, 2 UVCC, 3 D-, 4 D+, 5 UGND, 6 UCAP, 7 VBUS, 8 PB0, 9 PB1, 10 PB2, 11 PB3, 12 PB7, 13 ~{{RESET}}, 14 VCC, 15 GND, 16 XTAL2, 17 XTAL1, 18 PD0, 19 PD1, 20 PD2, 21 PD3, 22 PD5, 23 GND, 24 AVCC, 25 PD4, 26 PD6, 27 PD7, 28 PB4, 29 PB5, 30 PB6, 31 PC6, 32 PC7, 33 ~{{HWB}/PE2}, 34 VCC, 35 GND, 36 PF7, 37 PF6, 38 PF5, 39 PF4, 40 PF1, 41 PF0, 42 AREF, 43 GND, 44 AVCC, 45 GND

## ATmega32-16A
designator *  value ATmega32-16A  Reference: U
16MHz, 32kB Flash, 2kB SRAM, 1kB EEPROM, JTAG, TQFP-44; ki_keywords: AVR 8bit Microcontroller MegaAVR; ki_fp_filters: TQFP*10x10mm*P0.8mm*; Footprint: Package_QFP:TQFP-44_10x10mm_P0.8mm; Datasheet: http://ww1.microchip.com/downloads/en/DeviceDoc/doc2503.pdf; Description_: 16MHz, 32kB Flash, 2kB SRAM, 1kB EEPROM, JTAG, TQFP-44
pins: 1 PB5, 2 PB6, 3 PB7, 4 ~{{RESET}}, 5 VCC, 6 GND, 7 XTAL2, 8 XTAL1, 9 PD0, 10 PD1, 11 PD2, 12 PD3, 13 PD4, 14 PD5, 15 PD6, 16 PD7, 17 VCC, 18 GND, 19 PC0, 20 PC1, 21 PC2, 22 PC3, 23 PC4, 24 PC5, 25 PC6, 26 PC7, 27 AVCC, 28 GND, 29 AREF, 30 PA7, 31 PA6, 32 PA5, 33 PA4, 34 PA3, 35 PA2, 36 PA1, 37 PA0, 38 VCC, 39 GND, 40 PB0, 41 PB1, 42 PB2, 43 PB3, 44 PB4

## ATmega32-16M
designator *  value ATmega32-16M  Reference: U
16MHz, 32kB Flash, 2kB SRAM, 1kB EEPROM, JTAG, QFN-44; ki_keywords: AVR 8bit Microcontroller MegaAVR; ki_fp_filters: QFN*1EP*7x7mm*P0.5mm*; Footprint: Package_DFN_QFN:QFN-44-1EP_7x7mm_P0.5mm_EP5.2x5.2mm; Datasheet: http://ww1.microchip.com/downloads/en/DeviceDoc/doc2503.pdf; Description_: 16MHz, 32kB Flash, 2kB SRAM, 1kB EEPROM, JTAG, QFN-44
pins: 1 PB5, 2 PB6, 3 PB7, 4 ~{{RESET}}, 5 VCC, 6 GND, 7 XTAL2, 8 XTAL1, 9 PD0, 10 PD1, 11 PD2, 12 PD3, 13 PD4, 14 PD5, 15 PD6, 16 PD7, 17 VCC, 18 GND, 19 PC0, 20 PC1, 21 PC2, 22 PC3, 23 PC4, 24 PC5, 25 PC6, 26 PC7, 27 AVCC, 28 GND, 29 AREF, 30 PA7, 31 PA6, 32 PA5, 33 PA4, 34 PA3, 35 PA2, 36 PA1, 37 PA0, 38 VCC, 39 GND, 40 PB0, 41 PB1, 42 PB2, 43 PB3, 44 PB4, 45 GND

## ATmega32-16P
designator *  value ATmega32-16P  Reference: U
16MHz, 32kB Flash, 2kB SRAM, 1kB EEPROM, JTAG, DIP-40; ki_keywords: AVR 8bit Microcontroller MegaAVR; ki_fp_filters: DIP*W15.24mm*; Footprint: Package_DIP:DIP-40_W15.24mm; Datasheet: http://ww1.microchip.com/downloads/en/DeviceDoc/doc2503.pdf; Description_: 16MHz, 32kB Flash, 2kB SRAM, 1kB EEPROM, JTAG, DIP-40
pins: 1 PB0, 2 PB1, 3 PB2, 4 PB3, 5 PB4, 6 PB5, 7 PB6, 8 PB7, 9 ~{{RESET}}, 10 VCC, 11 GND, 12 XTAL2, 13 XTAL1, 14 PD0, 15 PD1, 16 PD2, 17 PD3, 18 PD4, 19 PD5, 20 PD6, 21 PD7, 22 PC0, 23 PC1, 24 PC2, 25 PC3, 26 PC4, 27 PC5, 28 PC6, 29 PC7, 30 AVCC, 31 GND, 32 AREF, 33 PA7, 34 PA6, 35 PA5, 36 PA4, 37 PA3, 38 PA2, 39 PA1, 40 PA0

## ATmega32A-A
designator *  value ATmega32A-A  Reference: U
16MHz, 32kB Flash, 2kB SRAM, 1kB EEPROM, JTAG, TQFP-44; ki_keywords: AVR 8bit Microcontroller MegaAVR; ki_fp_filters: TQFP*10x10mm*P0.8mm*; Footprint: Package_QFP:TQFP-44_10x10mm_P0.8mm; Datasheet: http://ww1.microchip.com/downloads/en/DeviceDoc/atmel-8155-8-bit-microcontroller-avr-atmega32a_datasheet.pdf; Description_: 16MHz, 32kB Flash, 2kB SRAM, 1kB EEPROM, JTAG, TQFP-44
pins: 1 PB5, 2 PB6, 3 PB7, 4 ~{{RESET}}, 5 VCC, 6 GND, 7 XTAL2, 8 XTAL1, 9 PD0, 10 PD1, 11 PD2, 12 PD3, 13 PD4, 14 PD5, 15 PD6, 16 PD7, 17 VCC, 18 GND, 19 PC0, 20 PC1, 21 PC2, 22 PC3, 23 PC4, 24 PC5, 25 PC6, 26 PC7, 27 AVCC, 28 GND, 29 AREF, 30 PA7, 31 PA6, 32 PA5, 33 PA4, 34 PA3, 35 PA2, 36 PA1, 37 PA0, 38 VCC, 39 GND, 40 PB0, 41 PB1, 42 PB2, 43 PB3, 44 PB4

## ATmega32A-M
designator *  value ATmega32A-M  Reference: U
16MHz, 32kB Flash, 2kB SRAM, 1kB EEPROM, JTAG, QFN-44; ki_keywords: AVR 8bit Microcontroller MegaAVR; ki_fp_filters: QFN*1EP*7x7mm*P0.5mm*; Footprint: Package_DFN_QFN:QFN-44-1EP_7x7mm_P0.5mm_EP5.2x5.2mm; Datasheet: http://ww1.microchip.com/downloads/en/DeviceDoc/atmel-8155-8-bit-microcontroller-avr-atmega32a_datasheet.pdf; Description_: 16MHz, 32kB Flash, 2kB SRAM, 1kB EEPROM, JTAG, QFN-44
pins: 1 PB5, 2 PB6, 3 PB7, 4 ~{{RESET}}, 5 VCC, 6 GND, 7 XTAL2, 8 XTAL1, 9 PD0, 10 PD1, 11 PD2, 12 PD3, 13 PD4, 14 PD5, 15 PD6, 16 PD7, 17 VCC, 18 GND, 19 PC0, 20 PC1, 21 PC2, 22 PC3, 23 PC4, 24 PC5, 25 PC6, 26 PC7, 27 AVCC, 28 GND, 29 AREF, 30 PA7, 31 PA6, 32 PA5, 33 PA4, 34 PA3, 35 PA2, 36 PA1, 37 PA0, 38 VCC, 39 GND, 40 PB0, 41 PB1, 42 PB2, 43 PB3, 44 PB4, 45 GND

## ATmega32A-P
designator *  value ATmega32A-P  Reference: U
16MHz, 32kB Flash, 2kB SRAM, 1kB EEPROM, JTAG, DIP-40; ki_keywords: AVR 8bit Microcontroller MegaAVR; ki_fp_filters: DIP*W15.24mm*; Footprint: Package_DIP:DIP-40_W15.24mm; Datasheet: http://ww1.microchip.com/downloads/en/DeviceDoc/atmel-8155-8-bit-microcontroller-avr-atmega32a_datasheet.pdf; Description_: 16MHz, 32kB Flash, 2kB SRAM, 1kB EEPROM, JTAG, DIP-40
pins: 1 PB0, 2 PB1, 3 PB2, 4 PB3, 5 PB4, 6 PB5, 7 PB6, 8 PB7, 9 ~{{RESET}}, 10 VCC, 11 GND, 12 XTAL2, 13 XTAL1, 14 PD0, 15 PD1, 16 PD2, 17 PD3, 18 PD4, 19 PD5, 20 PD6, 21 PD7, 22 PC0, 23 PC1, 24 PC2, 25 PC3, 26 PC4, 27 PC5, 28 PC6, 29 PC7, 30 AVCC, 31 GND, 32 AREF, 33 PA7, 34 PA6, 35 PA5, 36 PA4, 37 PA3, 38 PA2, 39 PA1, 40 PA0

## ATmega32L-8A
designator *  value ATmega32L-8A  Reference: U
8MHz, 32kB Flash, 2kB SRAM, 1kB EEPROM, JTAG, TQFP-44; ki_keywords: AVR 8bit Microcontroller MegaAVR; ki_fp_filters: TQFP*10x10mm*P0.8mm*; Footprint: Package_QFP:TQFP-44_10x10mm_P0.8mm; Datasheet: http://ww1.microchip.com/downloads/en/DeviceDoc/doc2503.pdf; Description_: 8MHz, 32kB Flash, 2kB SRAM, 1kB EEPROM, JTAG, TQFP-44
pins: 1 PB5, 2 PB6, 3 PB7, 4 ~{{RESET}}, 5 VCC, 6 GND, 7 XTAL2, 8 XTAL1, 9 PD0, 10 PD1, 11 PD2, 12 PD3, 13 PD4, 14 PD5, 15 PD6, 16 PD7, 17 VCC, 18 GND, 19 PC0, 20 PC1, 21 PC2, 22 PC3, 23 PC4, 24 PC5, 25 PC6, 26 PC7, 27 AVCC, 28 GND, 29 AREF, 30 PA7, 31 PA6, 32 PA5, 33 PA4, 34 PA3, 35 PA2, 36 PA1, 37 PA0, 38 VCC, 39 GND, 40 PB0, 41 PB1, 42 PB2, 43 PB3, 44 PB4

## ATmega32L-8M
designator *  value ATmega32L-8M  Reference: U
8MHz, 32kB Flash, 2kB SRAM, 1kB EEPROM, JTAG, QFN-44; ki_keywords: AVR 8bit Microcontroller MegaAVR; ki_fp_filters: QFN*1EP*7x7mm*P0.5mm*; Footprint: Package_DFN_QFN:QFN-44-1EP_7x7mm_P0.5mm_EP5.2x5.2mm; Datasheet: http://ww1.microchip.com/downloads/en/DeviceDoc/doc2503.pdf; Description_: 8MHz, 32kB Flash, 2kB SRAM, 1kB EEPROM, JTAG, QFN-44
pins: 1 PB5, 2 PB6, 3 PB7, 4 ~{{RESET}}, 5 VCC, 6 GND, 7 XTAL2, 8 XTAL1, 9 PD0, 10 PD1, 11 PD2, 12 PD3, 13 PD4, 14 PD5, 15 PD6, 16 PD7, 17 VCC, 18 GND, 19 PC0, 20 PC1, 21 PC2, 22 PC3, 23 PC4, 24 PC5, 25 PC6, 26 PC7, 27 AVCC, 28 GND, 29 AREF, 30 PA7, 31 PA6, 32 PA5, 33 PA4, 34 PA3, 35 PA2, 36 PA1, 37 PA0, 38 VCC, 39 GND, 40 PB0, 41 PB1, 42 PB2, 43 PB3, 44 PB4, 45 GND

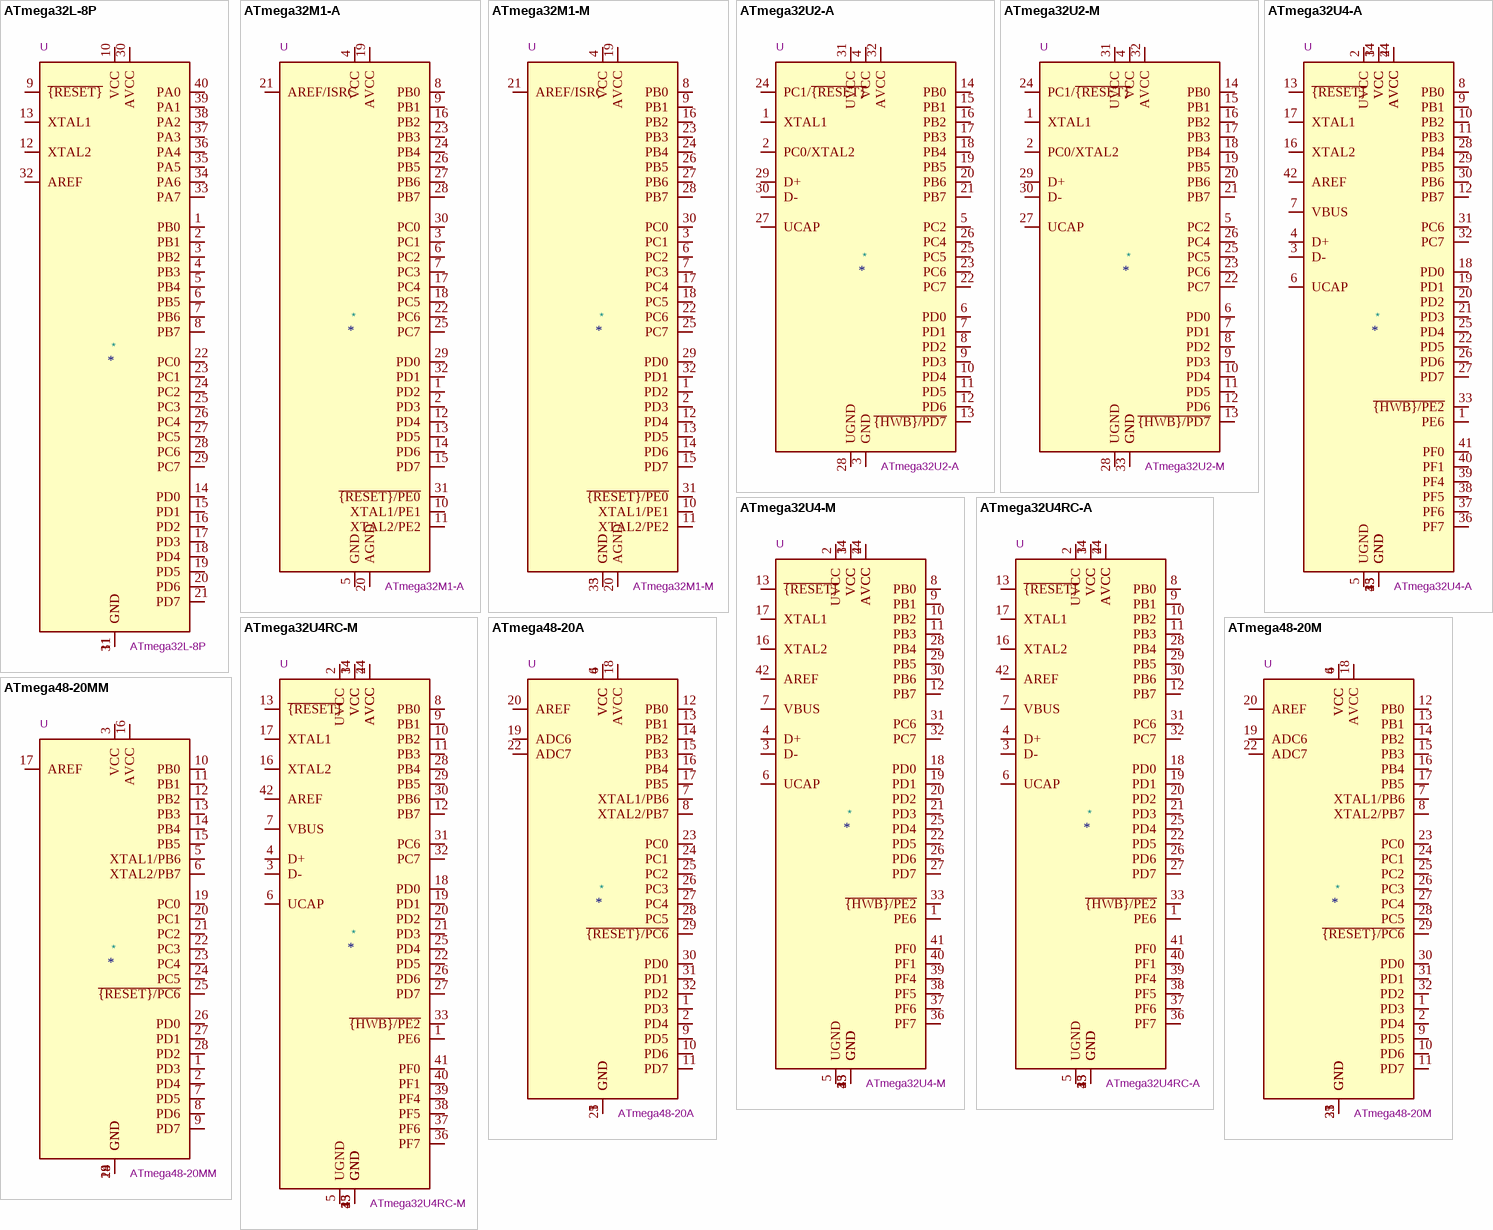
[diagram p3: symbols ATmega32L-8P to ATmega48-20MM]

## ATmega32L-8P
designator *  value ATmega32L-8P  Reference: U
8MHz, 32kB Flash, 2kB SRAM, 1kB EEPROM, JTAG, DIP-40; ki_keywords: AVR 8bit Microcontroller MegaAVR; ki_fp_filters: DIP*W15.24mm*; Footprint: Package_DIP:DIP-40_W15.24mm; Datasheet: http://ww1.microchip.com/downloads/en/DeviceDoc/doc2503.pdf; Description_: 8MHz, 32kB Flash, 2kB SRAM, 1kB EEPROM, JTAG, DIP-40
pins: 1 PB0, 2 PB1, 3 PB2, 4 PB3, 5 PB4, 6 PB5, 7 PB6, 8 PB7, 9 ~{{RESET}}, 10 VCC, 11 GND, 12 XTAL2, 13 XTAL1, 14 PD0, 15 PD1, 16 PD2, 17 PD3, 18 PD4, 19 PD5, 20 PD6, 21 PD7, 22 PC0, 23 PC1, 24 PC2, 25 PC3, 26 PC4, 27 PC5, 28 PC6, 29 PC7, 30 AVCC, 31 GND, 32 AREF, 33 PA7, 34 PA6, 35 PA5, 36 PA4, 37 PA3, 38 PA2, 39 PA1, 40 PA0

## ATmega32M1-A
designator *  value ATmega32M1-A  Reference: U
16MHz, 32kB Flash, 2kB SRAM, 1kB EEPROM, CAN, TQFP-32; ki_keywords: AVR 8bit Microcontroller MegaAVR; ki_fp_filters: TQFP*7x7mm*P0.8mm*; Footprint: Package_QFP:TQFP-32_7x7mm_P0.8mm; Datasheet: http://ww1.microchip.com/downloads/en/DeviceDoc/Atmel-8209-8-bit%20AVR%20ATmega16M1-32M1-64M1_Datasheet.pdf; Description_: 16MHz, 32kB Flash, 2kB SRAM, 1kB EEPROM, CAN, TQFP-32
pins: 1 PD2, 2 PD3, 3 PC1, 4 VCC, 5 GND, 6 PC2, 7 PC3, 8 PB0, 9 PB1, 10 XTAL1/PE1, 11 XTAL2/PE2, 12 PD4, 13 PD5, 14 PD6, 15 PD7, 16 PB2, 17 PC4, 18 PC5, 19 AVCC, 20 AGND, 21 AREF/ISRC, 22 PC6, 23 PB3, 24 PB4, 25 PC7, 26 PB5, 27 PB6, 28 PB7, 29 PD0, 30 PC0, 31 ~{{RESET}/PE0}, 32 PD1

## ATmega32M1-M
designator *  value ATmega32M1-M  Reference: U
16MHz, 32kB Flash, 2kB SRAM, 1kB EEPROM, CAN, QFN-32; ki_keywords: AVR 8bit Microcontroller MegaAVR; ki_fp_filters: QFN*1EP*7x7mm*P0.65mm*; Footprint: Package_DFN_QFN:QFN-32-1EP_7x7mm_P0.65mm_EP4.65x4.65mm; Datasheet: http://ww1.microchip.com/downloads/en/DeviceDoc/Atmel-8209-8-bit%20AVR%20ATmega16M1-32M1-64M1_Datasheet.pdf; Description_: 16MHz, 32kB Flash, 2kB SRAM, 1kB EEPROM, CAN, QFN-32
pins: 1 PD2, 2 PD3, 3 PC1, 4 VCC, 5 GND, 6 PC2, 7 PC3, 8 PB0, 9 PB1, 10 XTAL1/PE1, 11 XTAL2/PE2, 12 PD4, 13 PD5, 14 PD6, 15 PD7, 16 PB2, 17 PC4, 18 PC5, 19 AVCC, 20 AGND, 21 AREF/ISRC, 22 PC6, 23 PB3, 24 PB4, 25 PC7, 26 PB5, 27 PB6, 28 PB7, 29 PD0, 30 PC0, 31 ~{{RESET}/PE0}, 32 PD1, 33 GND

## ATmega32U2-A
designator *  value ATmega32U2-A  Reference: U
16MHz, 32kB Flash, 1kB SRAM, 1kB EEPROM, TQFP-32; ki_keywords: AVR 8bit Microcontroller MegaAVR; ki_fp_filters: TQFP*7x7mm*P0.8mm*; Footprint: Package_QFP:TQFP-32_7x7mm_P0.8mm; Datasheet: http://ww1.microchip.com/downloads/en/DeviceDoc/doc7799.pdf; Description_: 16MHz, 32kB Flash, 1kB SRAM, 1kB EEPROM, TQFP-32
pins: 1 XTAL1, 2 PC0/XTAL2, 3 GND, 4 VCC, 5 PC2, 6 PD0, 7 PD1, 8 PD2, 9 PD3, 10 PD4, 11 PD5, 12 PD6, 13 ~{{HWB}/PD7}, 14 PB0, 15 PB1, 16 PB2, 17 PB3, 18 PB4, 19 PB5, 20 PB6, 21 PB7, 22 PC7, 23 PC6, 24 PC1/~{{RESET}}, 25 PC5, 26 PC4, 27 UCAP, 28 UGND, 29 D+, 30 D-, 31 UVCC, 32 AVCC

## ATmega32U2-M
designator *  value ATmega32U2-M  Reference: U
16MHz, 32kB Flash, 1kB SRAM, 1kB EEPROM, QFN-32; ki_keywords: AVR 8bit Microcontroller MegaAVR; ki_fp_filters: QFN*1EP*5x5mm*P0.5mm*; Footprint: Package_DFN_QFN:QFN-32-1EP_5x5mm_P0.5mm_EP3.1x3.1mm; Datasheet: http://ww1.microchip.com/downloads/en/DeviceDoc/doc7799.pdf; Description_: 16MHz, 32kB Flash, 1kB SRAM, 1kB EEPROM, QFN-32
pins: 1 XTAL1, 2 PC0/XTAL2, 3 GND, 4 VCC, 5 PC2, 6 PD0, 7 PD1, 8 PD2, 9 PD3, 10 PD4, 11 PD5, 12 PD6, 13 ~{{HWB}/PD7}, 14 PB0, 15 PB1, 16 PB2, 17 PB3, 18 PB4, 19 PB5, 20 PB6, 21 PB7, 22 PC7, 23 PC6, 24 PC1/~{{RESET}}, 25 PC5, 26 PC4, 27 UCAP, 28 UGND, 29 D+, 30 D-, 31 UVCC, 32 AVCC, 33 GND

## ATmega32U4-A
designator *  value ATmega32U4-A  Reference: U
16MHz, 32kB Flash, 2.5kB SRAM, 1kB EEPROM, USB 2.0, TQFP-44; ki_keywords: AVR 8bit Microcontroller MegaAVR USB; ki_fp_filters: TQFP*10x10mm*P0.8mm*; Footprint: Package_QFP:TQFP-44_10x10mm_P0.8mm; Datasheet: http://ww1.microchip.com/downloads/en/DeviceDoc/Atmel-7766-8-bit-AVR-ATmega16U4-32U4_Datasheet.pdf; Description_: 16MHz, 32kB Flash, 2.5kB SRAM, 1kB EEPROM, USB 2.0, TQFP-44
pins: 1 PE6, 2 UVCC, 3 D-, 4 D+, 5 UGND, 6 UCAP, 7 VBUS, 8 PB0, 9 PB1, 10 PB2, 11 PB3, 12 PB7, 13 ~{{RESET}}, 14 VCC, 15 GND, 16 XTAL2, 17 XTAL1, 18 PD0, 19 PD1, 20 PD2, 21 PD3, 22 PD5, 23 GND, 24 AVCC, 25 PD4, 26 PD6, 27 PD7, 28 PB4, 29 PB5, 30 PB6, 31 PC6, 32 PC7, 33 ~{{HWB}/PE2}, 34 VCC, 35 GND, 36 PF7, 37 PF6, 38 PF5, 39 PF4, 40 PF1, 41 PF0, 42 AREF, 43 GND, 44 AVCC

## ATmega32U4-M
designator *  value ATmega32U4-M  Reference: U
16MHz, 32kB Flash, 2.5kB SRAM, 1kB EEPROM, USB 2.0, QFN-44; ki_keywords: AVR 8bit Microcontroller MegaAVR USB; ki_fp_filters: QFN*1EP*7x7mm*P0.5mm*; Footprint: Package_DFN_QFN:QFN-44-1EP_7x7mm_P0.5mm_EP5.2x5.2mm; Datasheet: http://ww1.microchip.com/downloads/en/DeviceDoc/Atmel-7766-8-bit-AVR-ATmega16U4-32U4_Datasheet.pdf; Description_: 16MHz, 32kB Flash, 2.5kB SRAM, 1kB EEPROM, USB 2.0, QFN-44
pins: 1 PE6, 2 UVCC, 3 D-, 4 D+, 5 UGND, 6 UCAP, 7 VBUS, 8 PB0, 9 PB1, 10 PB2, 11 PB3, 12 PB7, 13 ~{{RESET}}, 14 VCC, 15 GND, 16 XTAL2, 17 XTAL1, 18 PD0, 19 PD1, 20 PD2, 21 PD3, 22 PD5, 23 GND, 24 AVCC, 25 PD4, 26 PD6, 27 PD7, 28 PB4, 29 PB5, 30 PB6, 31 PC6, 32 PC7, 33 ~{{HWB}/PE2}, 34 VCC, 35 GND, 36 PF7, 37 PF6, 38 PF5, 39 PF4, 40 PF1, 41 PF0, 42 AREF, 43 GND, 44 AVCC, 45 GND

## ATmega32U4RC-A
designator *  value ATmega32U4RC-A  Reference: U
16MHz, 32kB Flash, 2.5kB SRAM, 1kB EEPROM, USB 2.0, RC Osc, TQFP-44; ki_keywords: AVR 8bit Microcontroller MegaAVR USB; ki_fp_filters: TQFP*10x10mm*P0.8mm*; Footprint: Package_QFP:TQFP-44_10x10mm_P0.8mm; Datasheet: http://ww1.microchip.com/downloads/en/DeviceDoc/Atmel-7766-8-bit-AVR-ATmega16U4-32U4_Datasheet.pdf; Description_: 16MHz, 32kB Flash, 2.5kB SRAM, 1kB EEPROM, USB 2.0, RC Osc, TQFP-44
pins: 1 PE6, 2 UVCC, 3 D-, 4 D+, 5 UGND, 6 UCAP, 7 VBUS, 8 PB0, 9 PB1, 10 PB2, 11 PB3, 12 PB7, 13 ~{{RESET}}, 14 VCC, 15 GND, 16 XTAL2, 17 XTAL1, 18 PD0, 19 PD1, 20 PD2, 21 PD3, 22 PD5, 23 GND, 24 AVCC, 25 PD4, 26 PD6, 27 PD7, 28 PB4, 29 PB5, 30 PB6, 31 PC6, 32 PC7, 33 ~{{HWB}/PE2}, 34 VCC, 35 GND, 36 PF7, 37 PF6, 38 PF5, 39 PF4, 40 PF1, 41 PF0, 42 AREF, 43 GND, 44 AVCC

## ATmega32U4RC-M
designator *  value ATmega32U4RC-M  Reference: U
16MHz, 32kB Flash, 2.5kB SRAM, 1kB EEPROM, USB 2.0, RC Osc, QFN-44; ki_keywords: AVR 8bit Microcontroller MegaAVR USB; ki_fp_filters: QFN*1EP*7x7mm*P0.5mm*; Footprint: Package_DFN_QFN:QFN-44-1EP_7x7mm_P0.5mm_EP5.2x5.2mm; Datasheet: http://ww1.microchip.com/downloads/en/DeviceDoc/Atmel-7766-8-bit-AVR-ATmega16U4-32U4_Datasheet.pdf; Description_: 16MHz, 32kB Flash, 2.5kB SRAM, 1kB EEPROM, USB 2.0, RC Osc, QFN-44
pins: 1 PE6, 2 UVCC, 3 D-, 4 D+, 5 UGND, 6 UCAP, 7 VBUS, 8 PB0, 9 PB1, 10 PB2, 11 PB3, 12 PB7, 13 ~{{RESET}}, 14 VCC, 15 GND, 16 XTAL2, 17 XTAL1, 18 PD0, 19 PD1, 20 PD2, 21 PD3, 22 PD5, 23 GND, 24 AVCC, 25 PD4, 26 PD6, 27 PD7, 28 PB4, 29 PB5, 30 PB6, 31 PC6, 32 PC7, 33 ~{{HWB}/PE2}, 34 VCC, 35 GND, 36 PF7, 37 PF6, 38 PF5, 39 PF4, 40 PF1, 41 PF0, 42 AREF, 43 GND, 44 AVCC, 45 GND

## ATmega48-20A
designator *  value ATmega48-20A  Reference: U
20MHz, 4kB Flash, 512B SRAM, 256B EEPROM, TQFP-32; ki_keywords: AVR 8bit Microcontroller MegaAVR; ki_fp_filters: TQFP*7x7mm*P0.8mm*; Footprint: Package_QFP:TQFP-32_7x7mm_P0.8mm; Datasheet: http://ww1.microchip.com/downloads/en/DeviceDoc/Atmel-2545-8-bit-AVR-Microcontroller-ATmega48-88-168_Datasheet.pdf; Description_: 20MHz, 4kB Flash, 512B SRAM, 256B EEPROM, TQFP-32
pins: 1 PD3, 2 PD4, 3 GND, 4 VCC, 5 GND, 6 VCC, 7 XTAL1/PB6, 8 XTAL2/PB7, 9 PD5, 10 PD6, 11 PD7, 12 PB0, 13 PB1, 14 PB2, 15 PB3, 16 PB4, 17 PB5, 18 AVCC, 19 ADC6, 20 AREF, 21 GND, 22 ADC7, 23 PC0, 24 PC1, 25 PC2, 26 PC3, 27 PC4, 28 PC5, 29 ~{{RESET}/PC6}, 30 PD0, 31 PD1, 32 PD2

## ATmega48-20M
designator *  value ATmega48-20M  Reference: U
20MHz, 4kB Flash, 512B SRAM, 256B EEPROM, QFN-32; ki_keywords: AVR 8bit Microcontroller MegaAVR; ki_fp_filters: QFN*1EP*5x5mm*P0.5mm*; Footprint: Package_DFN_QFN:QFN-32-1EP_5x5mm_P0.5mm_EP3.1x3.1mm; Datasheet: http://ww1.microchip.com/downloads/en/DeviceDoc/Atmel-2545-8-bit-AVR-Microcontroller-ATmega48-88-168_Datasheet.pdf; Description_: 20MHz, 4kB Flash, 512B SRAM, 256B EEPROM, QFN-32
pins: 1 PD3, 2 PD4, 3 GND, 4 VCC, 5 GND, 6 VCC, 7 XTAL1/PB6, 8 XTAL2/PB7, 9 PD5, 10 PD6, 11 PD7, 12 PB0, 13 PB1, 14 PB2, 15 PB3, 16 PB4, 17 PB5, 18 AVCC, 19 ADC6, 20 AREF, 21 GND, 22 ADC7, 23 PC0, 24 PC1, 25 PC2, 26 PC3, 27 PC4, 28 PC5, 29 ~{{RESET}/PC6}, 30 PD0, 31 PD1, 32 PD2, 33 GND

## ATmega48-20MM
designator *  value ATmega48-20MM  Reference: U
20MHz, 4kB Flash, 512B SRAM, 256B EEPROM, QFN-28; ki_keywords: AVR 8bit Microcontroller MegaAVR; ki_fp_filters: QFN*1EP*4x4mm*P0.45mm*; Footprint: Package_DFN_QFN:QFN-28-1EP_4x4mm_P0.45mm_EP2.4x2.4mm; Datasheet: http://ww1.microchip.com/downloads/en/DeviceDoc/Atmel-2545-8-bit-AVR-Microcontroller-ATmega48-88-168_Datasheet.pdf; Description_: 20MHz, 4kB Flash, 512B SRAM, 256B EEPROM, QFN-28
pins: 1 PD3, 2 PD4, 3 VCC, 4 GND, 5 XTAL1/PB6, 6 XTAL2/PB7, 7 PD5, 8 PD6, 9 PD7, 10 PB0, 11 PB1, 12 PB2, 13 PB3, 14 PB4, 15 PB5, 16 AVCC, 17 AREF, 18 GND, 19 PC0, 20 PC1, 21 PC2, 22 PC3, 23 PC4, 24 PC5, 25 ~{{RESET}/PC6}, 26 PD0, 27 PD1, 28 PD2, 29 GND

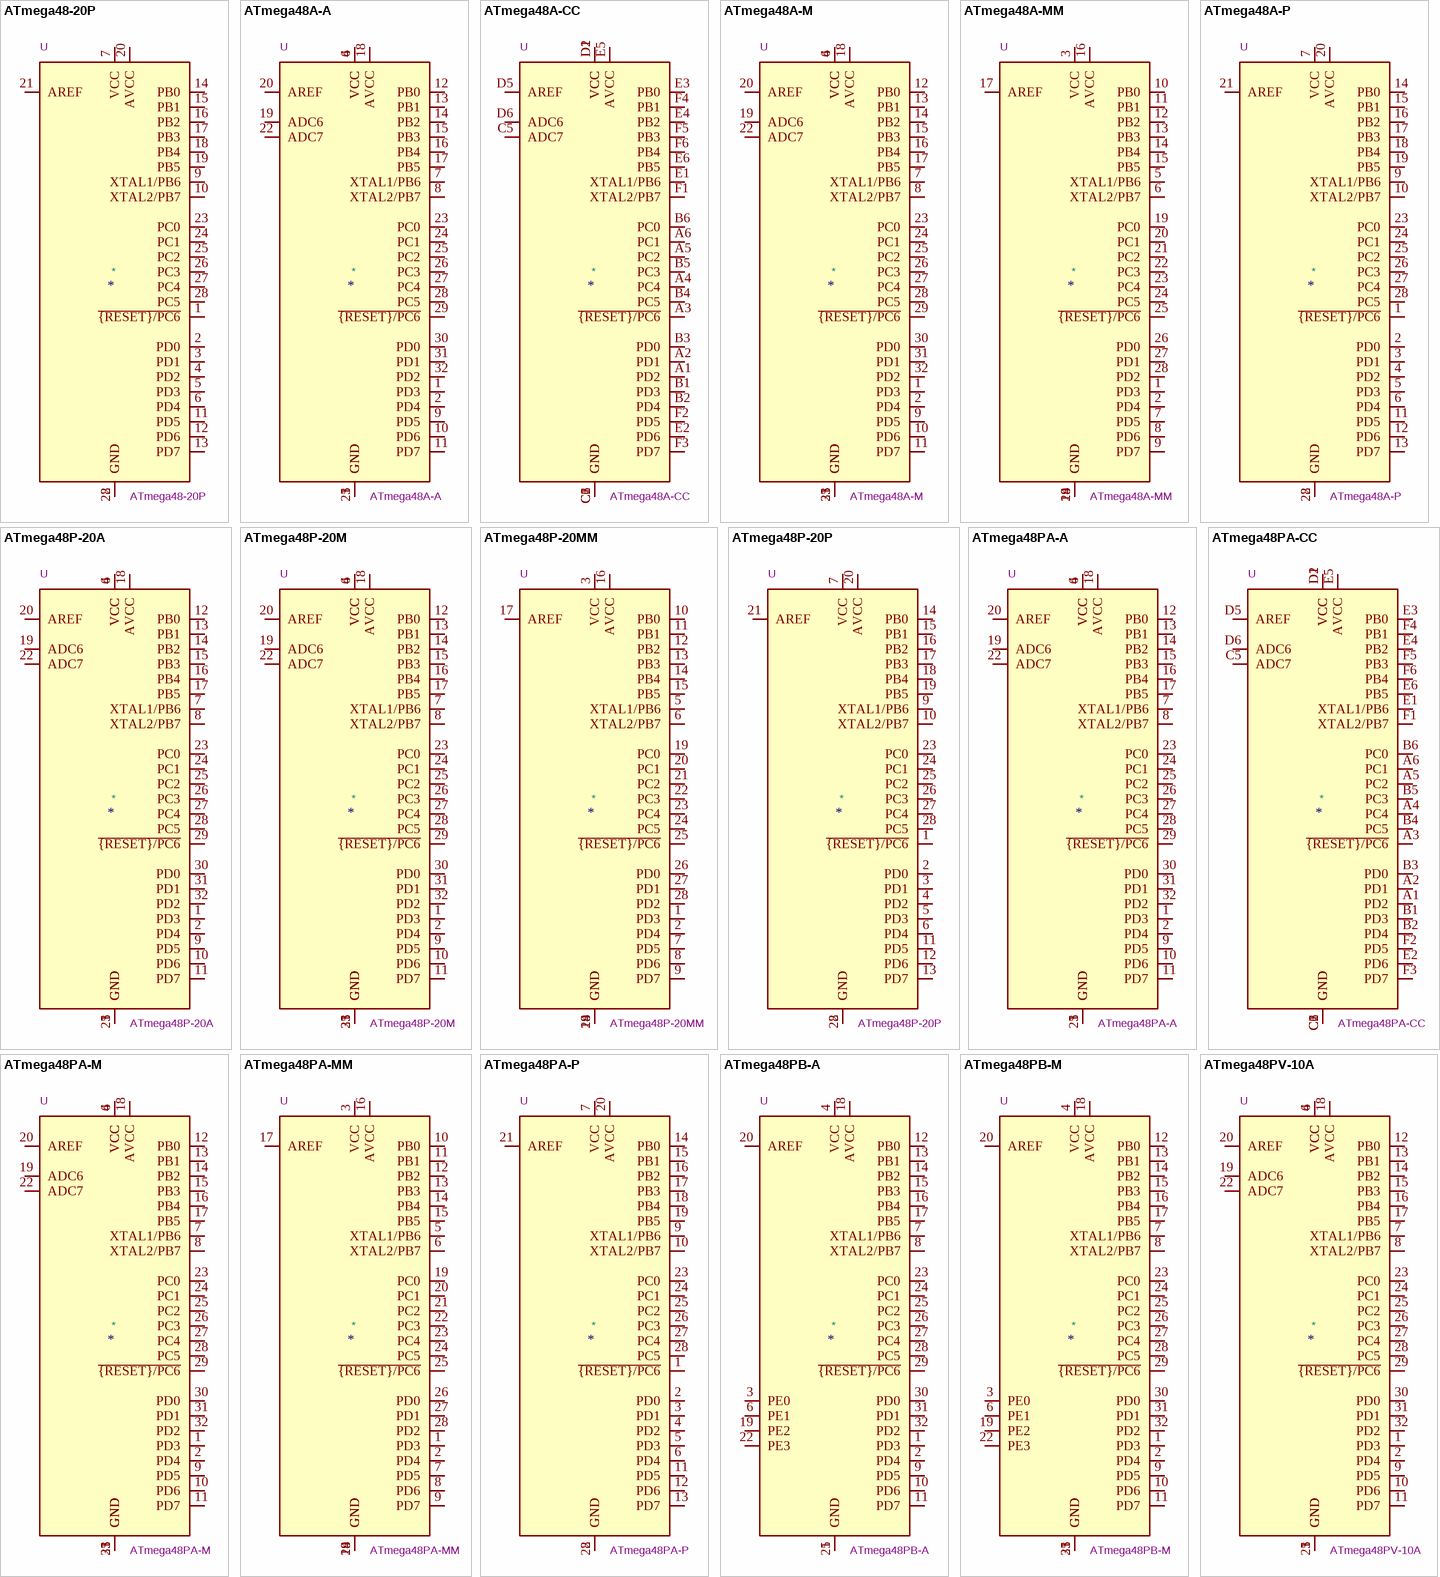
[diagram p4: symbols ATmega48-20P to ATmega48PV-10A]

## ATmega48-20P
designator *  value ATmega48-20P  Reference: U
20MHz, 4kB Flash, 512B SRAM, 256B EEPROM, DIP-28; ki_keywords: AVR 8bit Microcontroller MegaAVR; ki_fp_filters: DIP*W7.62mm*; Footprint: Package_DIP:DIP-28_W7.62mm; Datasheet: http://ww1.microchip.com/downloads/en/DeviceDoc/Atmel-2545-8-bit-AVR-Microcontroller-ATmega48-88-168_Datasheet.pdf; Description_: 20MHz, 4kB Flash, 512B SRAM, 256B EEPROM, DIP-28
pins: 1 ~{{RESET}/PC6}, 2 PD0, 3 PD1, 4 PD2, 5 PD3, 6 PD4, 7 VCC, 8 GND, 9 XTAL1/PB6, 10 XTAL2/PB7, 11 PD5, 12 PD6, 13 PD7, 14 PB0, 15 PB1, 16 PB2, 17 PB3, 18 PB4, 19 PB5, 20 AVCC, 21 AREF, 22 GND, 23 PC0, 24 PC1, 25 PC2, 26 PC3, 27 PC4, 28 PC5

## ATmega48A-A
designator *  value ATmega48A-A  Reference: U
20MHz, 4kB Flash, 512B SRAM, 256B EEPROM, TQFP-32; ki_keywords: AVR 8bit Microcontroller MegaAVR; ki_fp_filters: TQFP*7x7mm*P0.8mm*; Footprint: Package_QFP:TQFP-32_7x7mm_P0.8mm; Datasheet: http://ww1.microchip.com/downloads/en/DeviceDoc/ATmega48A_88A_168A-Data-Sheet-40002007A.pdf; Description_: 20MHz, 4kB Flash, 512B SRAM, 256B EEPROM, TQFP-32
pins: 1 PD3, 2 PD4, 3 GND, 4 VCC, 5 GND, 6 VCC, 7 XTAL1/PB6, 8 XTAL2/PB7, 9 PD5, 10 PD6, 11 PD7, 12 PB0, 13 PB1, 14 PB2, 15 PB3, 16 PB4, 17 PB5, 18 AVCC, 19 ADC6, 20 AREF, 21 GND, 22 ADC7, 23 PC0, 24 PC1, 25 PC2, 26 PC3, 27 PC4, 28 PC5, 29 ~{{RESET}/PC6}, 30 PD0, 31 PD1, 32 PD2

## ATmega48A-CC
designator *  value ATmega48A-CC  Reference: U
20MHz, 4kB Flash, 512B SRAM, 256B EEPROM, UFBGA-32; ki_keywords: AVR 8bit Microcontroller MegaAVR; ki_fp_filters: UFBGA*4.0x4.0mm*Layout6x6*P0.5mm*; Footprint: Package_BGA:UFBGA-32_4.0x4.0mm_Layout6x6_P0.5mm; Datasheet: http://ww1.microchip.com/downloads/en/DeviceDoc/ATmega48A_88A_168A-Data-Sheet-40002007A.pdf; Description_: 20MHz, 4kB Flash, 512B SRAM, 256B EEPROM, UFBGA-32
pins: A1 PD2, A2 PD1, A3 ~{{RESET}/PC6}, A4 PC4, A5 PC2, A6 PC1, B1 PD3, B2 PD4, B3 PD0, B4 PC5, B5 PC3, B6 PC0, C1 GND, C2 GND, C5 ADC7, C6 GND, D1 VCC, D2 VCC, D5 AREF, D6 ADC6, E1 XTAL1/PB6, E2 PD6, E3 PB0, E4 PB2, E5 AVCC, E6 PB5, F1 XTAL2/PB7, F2 PD5, F3 PD7, F4 PB1, F5 PB3, F6 PB4

## ATmega48A-M
designator *  value ATmega48A-M  Reference: U
20MHz, 4kB Flash, 512B SRAM, 256B EEPROM, QFN-32; ki_keywords: AVR 8bit Microcontroller MegaAVR; ki_fp_filters: QFN*1EP*5x5mm*P0.5mm*; Footprint: Package_DFN_QFN:QFN-32-1EP_5x5mm_P0.5mm_EP3.1x3.1mm; Datasheet: http://ww1.microchip.com/downloads/en/DeviceDoc/ATmega48A_88A_168A-Data-Sheet-40002007A.pdf; Description_: 20MHz, 4kB Flash, 512B SRAM, 256B EEPROM, QFN-32
pins: 1 PD3, 2 PD4, 3 GND, 4 VCC, 5 GND, 6 VCC, 7 XTAL1/PB6, 8 XTAL2/PB7, 9 PD5, 10 PD6, 11 PD7, 12 PB0, 13 PB1, 14 PB2, 15 PB3, 16 PB4, 17 PB5, 18 AVCC, 19 ADC6, 20 AREF, 21 GND, 22 ADC7, 23 PC0, 24 PC1, 25 PC2, 26 PC3, 27 PC4, 28 PC5, 29 ~{{RESET}/PC6}, 30 PD0, 31 PD1, 32 PD2, 33 GND

## ATmega48A-MM
designator *  value ATmega48A-MM  Reference: U
20MHz, 4kB Flash, 512B SRAM, 256B EEPROM, QFN-28; ki_keywords: AVR 8bit Microcontroller MegaAVR; ki_fp_filters: QFN*1EP*4x4mm*P0.45mm*; Footprint: Package_DFN_QFN:QFN-28-1EP_4x4mm_P0.45mm_EP2.4x2.4mm; Datasheet: http://ww1.microchip.com/downloads/en/DeviceDoc/ATmega48A_88A_168A-Data-Sheet-40002007A.pdf; Description_: 20MHz, 4kB Flash, 512B SRAM, 256B EEPROM, QFN-28
pins: 1 PD3, 2 PD4, 3 VCC, 4 GND, 5 XTAL1/PB6, 6 XTAL2/PB7, 7 PD5, 8 PD6, 9 PD7, 10 PB0, 11 PB1, 12 PB2, 13 PB3, 14 PB4, 15 PB5, 16 AVCC, 17 AREF, 18 GND, 19 PC0, 20 PC1, 21 PC2, 22 PC3, 23 PC4, 24 PC5, 25 ~{{RESET}/PC6}, 26 PD0, 27 PD1, 28 PD2, 29 GND

## ATmega48A-P
designator *  value ATmega48A-P  Reference: U
20MHz, 4kB Flash, 512B SRAM, 256B EEPROM, DIP-28; ki_keywords: AVR 8bit Microcontroller MegaAVR; ki_fp_filters: DIP*W7.62mm*; Footprint: Package_DIP:DIP-28_W7.62mm; Datasheet: http://ww1.microchip.com/downloads/en/DeviceDoc/ATmega48A_88A_168A-Data-Sheet-40002007A.pdf; Description_: 20MHz, 4kB Flash, 512B SRAM, 256B EEPROM, DIP-28
pins: 1 ~{{RESET}/PC6}, 2 PD0, 3 PD1, 4 PD2, 5 PD3, 6 PD4, 7 VCC, 8 GND, 9 XTAL1/PB6, 10 XTAL2/PB7, 11 PD5, 12 PD6, 13 PD7, 14 PB0, 15 PB1, 16 PB2, 17 PB3, 18 PB4, 19 PB5, 20 AVCC, 21 AREF, 22 GND, 23 PC0, 24 PC1, 25 PC2, 26 PC3, 27 PC4, 28 PC5

## ATmega48P-20A
designator *  value ATmega48P-20A  Reference: U
20MHz, 4kB Flash, 512B SRAM, 256B EEPROM, TQFP-32; ki_keywords: AVR 8bit Microcontroller MegaAVR; ki_fp_filters: TQFP*7x7mm*P0.8mm*; Footprint: Package_QFP:TQFP-32_7x7mm_P0.8mm; Datasheet: http://ww1.microchip.com/downloads/en/DeviceDoc/Atmel-8025-8-bit-AVR-Microcontroller-ATmega48P-88P-168P_Datasheet.pdf; Description_: 20MHz, 4kB Flash, 512B SRAM, 256B EEPROM, TQFP-32
pins: 1 PD3, 2 PD4, 3 GND, 4 VCC, 5 GND, 6 VCC, 7 XTAL1/PB6, 8 XTAL2/PB7, 9 PD5, 10 PD6, 11 PD7, 12 PB0, 13 PB1, 14 PB2, 15 PB3, 16 PB4, 17 PB5, 18 AVCC, 19 ADC6, 20 AREF, 21 GND, 22 ADC7, 23 PC0, 24 PC1, 25 PC2, 26 PC3, 27 PC4, 28 PC5, 29 ~{{RESET}/PC6}, 30 PD0, 31 PD1, 32 PD2

## ATmega48P-20M
designator *  value ATmega48P-20M  Reference: U
20MHz, 4kB Flash, 512B SRAM, 256B EEPROM, QFN-32; ki_keywords: AVR 8bit Microcontroller MegaAVR; ki_fp_filters: QFN*1EP*5x5mm*P0.5mm*; Footprint: Package_DFN_QFN:QFN-32-1EP_5x5mm_P0.5mm_EP3.1x3.1mm; Datasheet: http://ww1.microchip.com/downloads/en/DeviceDoc/Atmel-8025-8-bit-AVR-Microcontroller-ATmega48P-88P-168P_Datasheet.pdf; Description_: 20MHz, 4kB Flash, 512B SRAM, 256B EEPROM, QFN-32
pins: 1 PD3, 2 PD4, 3 GND, 4 VCC, 5 GND, 6 VCC, 7 XTAL1/PB6, 8 XTAL2/PB7, 9 PD5, 10 PD6, 11 PD7, 12 PB0, 13 PB1, 14 PB2, 15 PB3, 16 PB4, 17 PB5, 18 AVCC, 19 ADC6, 20 AREF, 21 GND, 22 ADC7, 23 PC0, 24 PC1, 25 PC2, 26 PC3, 27 PC4, 28 PC5, 29 ~{{RESET}/PC6}, 30 PD0, 31 PD1, 32 PD2, 33 GND

## ATmega48P-20MM
designator *  value ATmega48P-20MM  Reference: U
20MHz, 4kB Flash, 512B SRAM, 256B EEPROM, QFN-28; ki_keywords: AVR 8bit Microcontroller MegaAVR; ki_fp_filters: QFN*1EP*4x4mm*P0.45mm*; Footprint: Package_DFN_QFN:QFN-28-1EP_4x4mm_P0.45mm_EP2.4x2.4mm; Datasheet: http://ww1.microchip.com/downloads/en/DeviceDoc/Atmel-8025-8-bit-AVR-Microcontroller-ATmega48P-88P-168P_Datasheet.pdf; Description_: 20MHz, 4kB Flash, 512B SRAM, 256B EEPROM, QFN-28
pins: 1 PD3, 2 PD4, 3 VCC, 4 GND, 5 XTAL1/PB6, 6 XTAL2/PB7, 7 PD5, 8 PD6, 9 PD7, 10 PB0, 11 PB1, 12 PB2, 13 PB3, 14 PB4, 15 PB5, 16 AVCC, 17 AREF, 18 GND, 19 PC0, 20 PC1, 21 PC2, 22 PC3, 23 PC4, 24 PC5, 25 ~{{RESET}/PC6}, 26 PD0, 27 PD1, 28 PD2, 29 GND

## ATmega48P-20P
designator *  value ATmega48P-20P  Reference: U
20MHz, 4kB Flash, 512B SRAM, 256B EEPROM, DIP-28; ki_keywords: AVR 8bit Microcontroller MegaAVR; ki_fp_filters: DIP*W7.62mm*; Footprint: Package_DIP:DIP-28_W7.62mm; Datasheet: http://ww1.microchip.com/downloads/en/DeviceDoc/Atmel-8025-8-bit-AVR-Microcontroller-ATmega48P-88P-168P_Datasheet.pdf; Description_: 20MHz, 4kB Flash, 512B SRAM, 256B EEPROM, DIP-28
pins: 1 ~{{RESET}/PC6}, 2 PD0, 3 PD1, 4 PD2, 5 PD3, 6 PD4, 7 VCC, 8 GND, 9 XTAL1/PB6, 10 XTAL2/PB7, 11 PD5, 12 PD6, 13 PD7, 14 PB0, 15 PB1, 16 PB2, 17 PB3, 18 PB4, 19 PB5, 20 AVCC, 21 AREF, 22 GND, 23 PC0, 24 PC1, 25 PC2, 26 PC3, 27 PC4, 28 PC5

## ATmega48PA-A
designator *  value ATmega48PA-A  Reference: U
20MHz, 4kB Flash, 512B SRAM, 256B EEPROM, TQFP-32; ki_keywords: AVR 8bit Microcontroller MegaAVR PicoPower; ki_fp_filters: TQFP*7x7mm*P0.8mm*; Footprint: Package_QFP:TQFP-32_7x7mm_P0.8mm; Datasheet: http://ww1.microchip.com/downloads/en/DeviceDoc/ATmega48PA_88PA_168PA-Data-Sheet-40002011A.pdf; Description_: 20MHz, 4kB Flash, 512B SRAM, 256B EEPROM, TQFP-32
pins: 1 PD3, 2 PD4, 3 GND, 4 VCC, 5 GND, 6 VCC, 7 XTAL1/PB6, 8 XTAL2/PB7, 9 PD5, 10 PD6, 11 PD7, 12 PB0, 13 PB1, 14 PB2, 15 PB3, 16 PB4, 17 PB5, 18 AVCC, 19 ADC6, 20 AREF, 21 GND, 22 ADC7, 23 PC0, 24 PC1, 25 PC2, 26 PC3, 27 PC4, 28 PC5, 29 ~{{RESET}/PC6}, 30 PD0, 31 PD1, 32 PD2

## ATmega48PA-CC
designator *  value ATmega48PA-CC  Reference: U
20MHz, 4kB Flash, 512B SRAM, 256B EEPROM, UFBGA-32; ki_keywords: AVR 8bit Microcontroller MegaAVR PicoPower; ki_fp_filters: UFBGA*4.0x4.0mm*Layout6x6*P0.5mm*; Footprint: Package_BGA:UFBGA-32_4.0x4.0mm_Layout6x6_P0.5mm; Datasheet: http://ww1.microchip.com/downloads/en/DeviceDoc/ATmega48PA_88PA_168PA-Data-Sheet-40002011A.pdf; Description_: 20MHz, 4kB Flash, 512B SRAM, 256B EEPROM, UFBGA-32
pins: A1 PD2, A2 PD1, A3 ~{{RESET}/PC6}, A4 PC4, A5 PC2, A6 PC1, B1 PD3, B2 PD4, B3 PD0, B4 PC5, B5 PC3, B6 PC0, C1 GND, C2 GND, C5 ADC7, C6 GND, D1 VCC, D2 VCC, D5 AREF, D6 ADC6, E1 XTAL1/PB6, E2 PD6, E3 PB0, E4 PB2, E5 AVCC, E6 PB5, F1 XTAL2/PB7, F2 PD5, F3 PD7, F4 PB1, F5 PB3, F6 PB4

## ATmega48PA-M
designator *  value ATmega48PA-M  Reference: U
20MHz, 4kB Flash, 512B SRAM, 256B EEPROM, QFN-32; ki_keywords: AVR 8bit Microcontroller MegaAVR PicoPower; ki_fp_filters: QFN*1EP*5x5mm*P0.5mm*; Footprint: Package_DFN_QFN:QFN-32-1EP_5x5mm_P0.5mm_EP3.1x3.1mm; Datasheet: http://ww1.microchip.com/downloads/en/DeviceDoc/ATmega48PA_88PA_168PA-Data-Sheet-40002011A.pdf; Description_: 20MHz, 4kB Flash, 512B SRAM, 256B EEPROM, QFN-32
pins: 1 PD3, 2 PD4, 3 GND, 4 VCC, 5 GND, 6 VCC, 7 XTAL1/PB6, 8 XTAL2/PB7, 9 PD5, 10 PD6, 11 PD7, 12 PB0, 13 PB1, 14 PB2, 15 PB3, 16 PB4, 17 PB5, 18 AVCC, 19 ADC6, 20 AREF, 21 GND, 22 ADC7, 23 PC0, 24 PC1, 25 PC2, 26 PC3, 27 PC4, 28 PC5, 29 ~{{RESET}/PC6}, 30 PD0, 31 PD1, 32 PD2, 33 GND

## ATmega48PA-MM
designator *  value ATmega48PA-MM  Reference: U
20MHz, 4kB Flash, 512B SRAM, 256B EEPROM, QFN-28; ki_keywords: AVR 8bit Microcontroller MegaAVR PicoPower; ki_fp_filters: QFN*1EP*4x4mm*P0.45mm*; Footprint: Package_DFN_QFN:QFN-28-1EP_4x4mm_P0.45mm_EP2.4x2.4mm; Datasheet: http://ww1.microchip.com/downloads/en/DeviceDoc/ATmega48PA_88PA_168PA-Data-Sheet-40002011A.pdf; Description_: 20MHz, 4kB Flash, 512B SRAM, 256B EEPROM, QFN-28
pins: 1 PD3, 2 PD4, 3 VCC, 4 GND, 5 XTAL1/PB6, 6 XTAL2/PB7, 7 PD5, 8 PD6, 9 PD7, 10 PB0, 11 PB1, 12 PB2, 13 PB3, 14 PB4, 15 PB5, 16 AVCC, 17 AREF, 18 GND, 19 PC0, 20 PC1, 21 PC2, 22 PC3, 23 PC4, 24 PC5, 25 ~{{RESET}/PC6}, 26 PD0, 27 PD1, 28 PD2, 29 GND

## ATmega48PA-P
designator *  value ATmega48PA-P  Reference: U
20MHz, 4kB Flash, 512B SRAM, 256B EEPROM, DIP-28; ki_keywords: AVR 8bit Microcontroller MegaAVR PicoPower; ki_fp_filters: DIP*W7.62mm*; Footprint: Package_DIP:DIP-28_W7.62mm; Datasheet: http://ww1.microchip.com/downloads/en/DeviceDoc/ATmega48PA_88PA_168PA-Data-Sheet-40002011A.pdf; Description_: 20MHz, 4kB Flash, 512B SRAM, 256B EEPROM, DIP-28
pins: 1 ~{{RESET}/PC6}, 2 PD0, 3 PD1, 4 PD2, 5 PD3, 6 PD4, 7 VCC, 8 GND, 9 XTAL1/PB6, 10 XTAL2/PB7, 11 PD5, 12 PD6, 13 PD7, 14 PB0, 15 PB1, 16 PB2, 17 PB3, 18 PB4, 19 PB5, 20 AVCC, 21 AREF, 22 GND, 23 PC0, 24 PC1, 25 PC2, 26 PC3, 27 PC4, 28 PC5

## ATmega48PB-A
designator *  value ATmega48PB-A  Reference: U
20MHz, 4kB Flash, 512B SRAM, 256B EEPROM, TQFP-32; ki_keywords: AVR 8bit Microcontroller MegaAVR; ki_fp_filters: TQFP*7x7mm*P0.8mm*; Footprint: Package_QFP:TQFP-32_7x7mm_P0.8mm; Datasheet: http://ww1.microchip.com/downloads/en/DeviceDoc/40001909A.pdf; Description_: 20MHz, 4kB Flash, 512B SRAM, 256B EEPROM, TQFP-32
pins: 1 PD3, 2 PD4, 3 PE0, 4 VCC, 5 GND, 6 PE1, 7 XTAL1/PB6, 8 XTAL2/PB7, 9 PD5, 10 PD6, 11 PD7, 12 PB0, 13 PB1, 14 PB2, 15 PB3, 16 PB4, 17 PB5, 18 AVCC, 19 PE2, 20 AREF, 21 GND, 22 PE3, 23 PC0, 24 PC1, 25 PC2, 26 PC3, 27 PC4, 28 PC5, 29 ~{{RESET}/PC6}, 30 PD0, 31 PD1, 32 PD2

## ATmega48PB-M
designator *  value ATmega48PB-M  Reference: U
20MHz, 4kB Flash, 512B SRAM, 256B EEPROM, QFN-32; ki_keywords: AVR 8bit Microcontroller MegaAVR; ki_fp_filters: QFN*1EP*5x5mm*P0.5mm*; Footprint: Package_DFN_QFN:QFN-32-1EP_5x5mm_P0.5mm_EP3.1x3.1mm; Datasheet: http://ww1.microchip.com/downloads/en/DeviceDoc/40001909A.pdf; Description_: 20MHz, 4kB Flash, 512B SRAM, 256B EEPROM, QFN-32
pins: 1 PD3, 2 PD4, 3 PE0, 4 VCC, 5 GND, 6 PE1, 7 XTAL1/PB6, 8 XTAL2/PB7, 9 PD5, 10 PD6, 11 PD7, 12 PB0, 13 PB1, 14 PB2, 15 PB3, 16 PB4, 17 PB5, 18 AVCC, 19 PE2, 20 AREF, 21 GND, 22 PE3, 23 PC0, 24 PC1, 25 PC2, 26 PC3, 27 PC4, 28 PC5, 29 ~{{RESET}/PC6}, 30 PD0, 31 PD1, 32 PD2, 33 GND

## ATmega48PV-10A
designator *  value ATmega48PV-10A  Reference: U
10MHz, 4kB Flash, 512B SRAM, 256B EEPROM, TQFP-32; ki_keywords: AVR 8bit Microcontroller MegaAVR; ki_fp_filters: TQFP*7x7mm*P0.8mm*; Footprint: Package_QFP:TQFP-32_7x7mm_P0.8mm; Datasheet: http://ww1.microchip.com/downloads/en/DeviceDoc/Atmel-8025-8-bit-AVR-Microcontroller-ATmega48P-88P-168P_Datasheet.pdf; Description_: 10MHz, 4kB Flash, 512B SRAM, 256B EEPROM, TQFP-32
pins: 1 PD3, 2 PD4, 3 GND, 4 VCC, 5 GND, 6 VCC, 7 XTAL1/PB6, 8 XTAL2/PB7, 9 PD5, 10 PD6, 11 PD7, 12 PB0, 13 PB1, 14 PB2, 15 PB3, 16 PB4, 17 PB5, 18 AVCC, 19 ADC6, 20 AREF, 21 GND, 22 ADC7, 23 PC0, 24 PC1, 25 PC2, 26 PC3, 27 PC4, 28 PC5, 29 ~{{RESET}/PC6}, 30 PD0, 31 PD1, 32 PD2

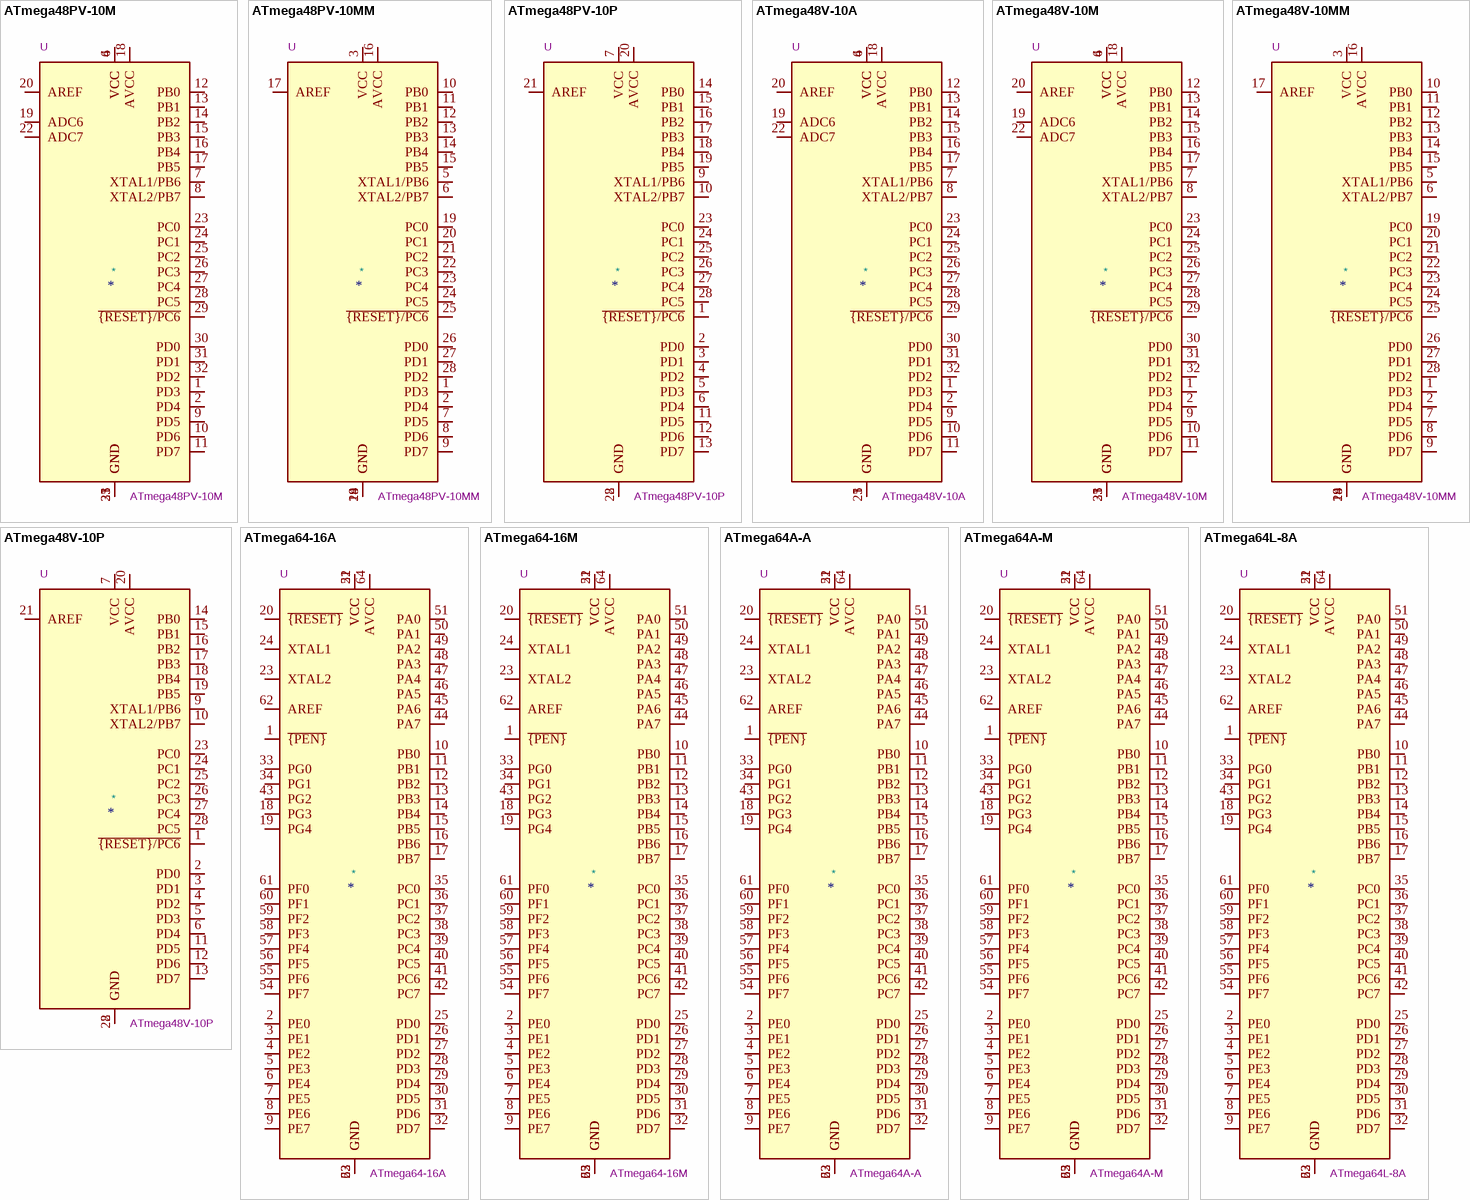
[diagram p5: symbols ATmega48PV-10M to ATmega64L-8A]

## ATmega48PV-10M
designator *  value ATmega48PV-10M  Reference: U
10MHz, 4kB Flash, 512B SRAM, 256B EEPROM, QFN-32; ki_keywords: AVR 8bit Microcontroller MegaAVR; ki_fp_filters: QFN*1EP*5x5mm*P0.5mm*; Footprint: Package_DFN_QFN:QFN-32-1EP_5x5mm_P0.5mm_EP3.1x3.1mm; Datasheet: http://ww1.microchip.com/downloads/en/DeviceDoc/Atmel-8025-8-bit-AVR-Microcontroller-ATmega48P-88P-168P_Datasheet.pdf; Description_: 10MHz, 4kB Flash, 512B SRAM, 256B EEPROM, QFN-32
pins: 1 PD3, 2 PD4, 3 GND, 4 VCC, 5 GND, 6 VCC, 7 XTAL1/PB6, 8 XTAL2/PB7, 9 PD5, 10 PD6, 11 PD7, 12 PB0, 13 PB1, 14 PB2, 15 PB3, 16 PB4, 17 PB5, 18 AVCC, 19 ADC6, 20 AREF, 21 GND, 22 ADC7, 23 PC0, 24 PC1, 25 PC2, 26 PC3, 27 PC4, 28 PC5, 29 ~{{RESET}/PC6}, 30 PD0, 31 PD1, 32 PD2, 33 GND